# Altium integrated library Altera MAX 7000S.IntLib: 338 symbols (part 15 of 20)
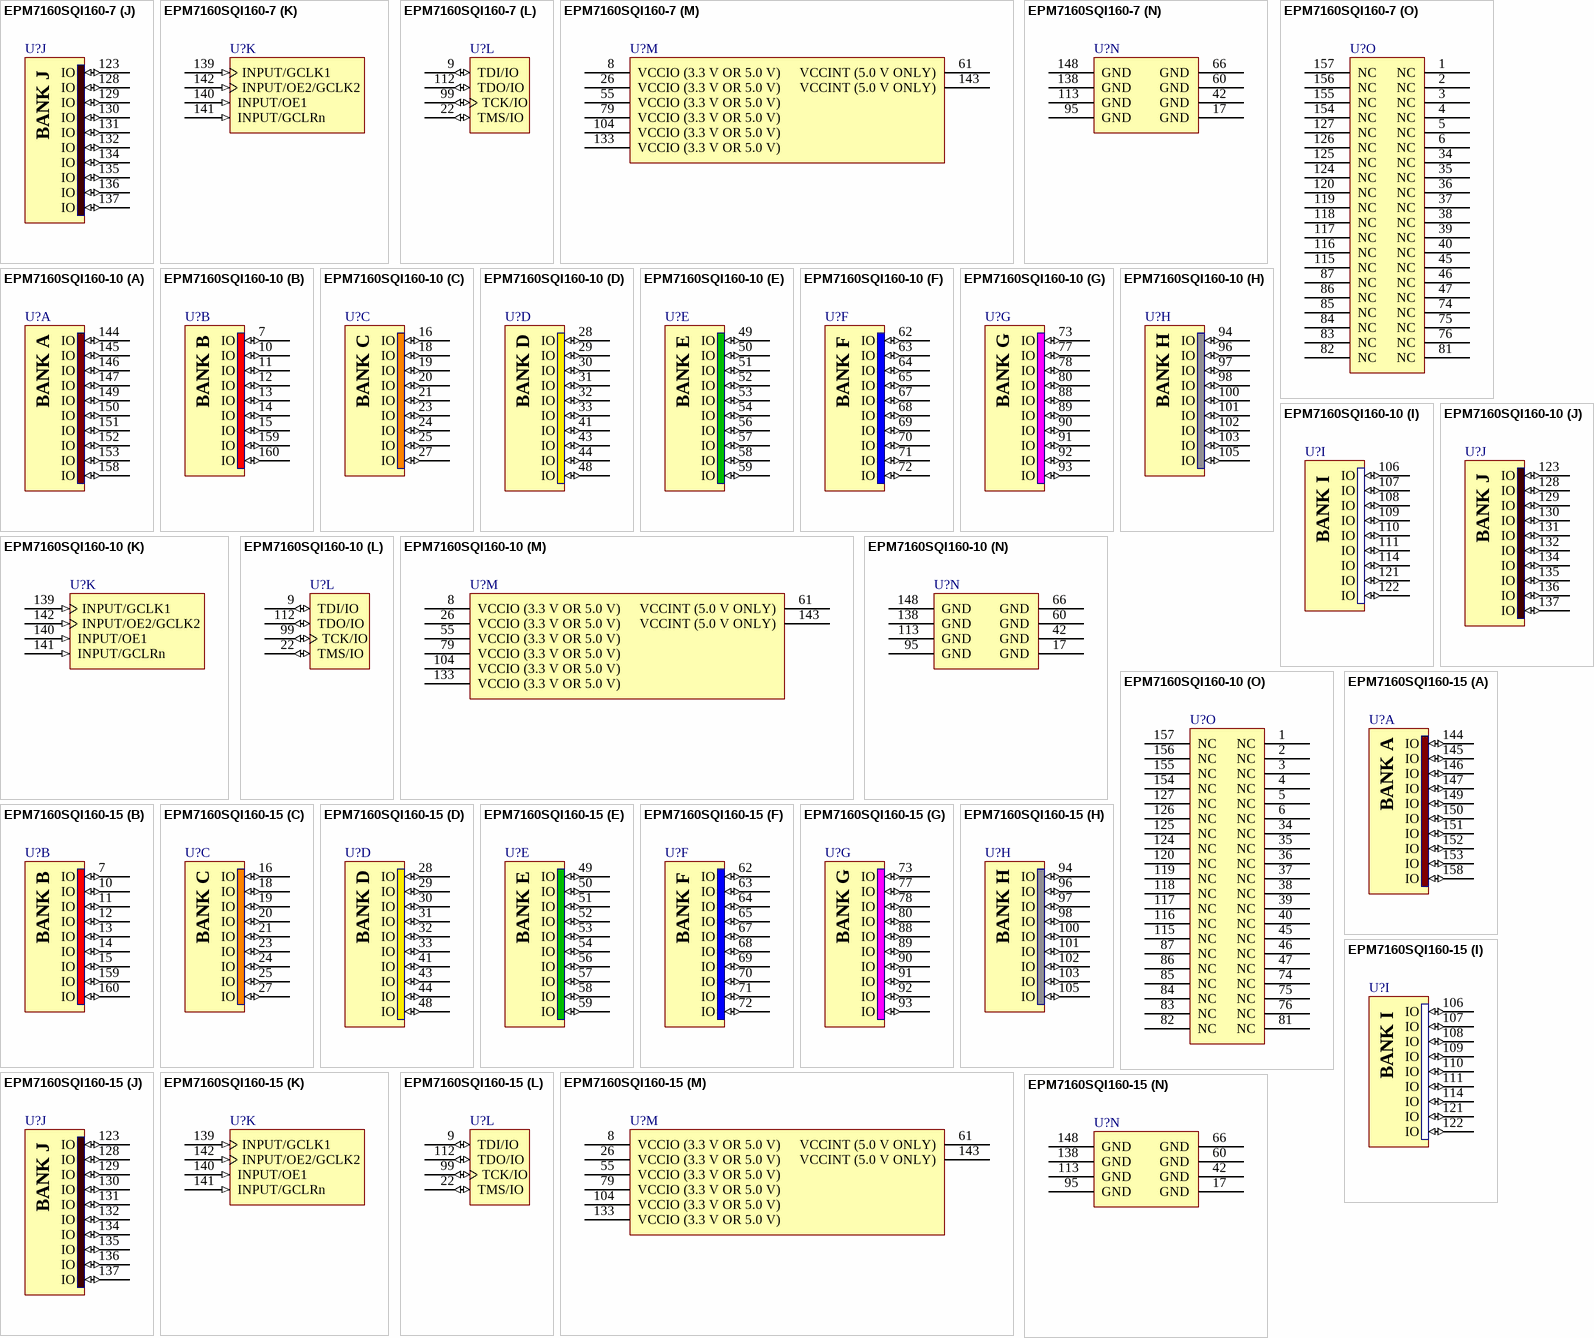
[diagram p118: symbols EPM7160SQI160-7 to EPM7160SQI160-15]

## EPM7160SQI160-10
designator U?
MAX 7000S 5V In-System Programmable CPLD, 160 Macrocells, 160-Pin PQFP, Speed Grade 10, Industrial Grade; Published: 17-Jul-2002; LatestRevisionDate: 13-Apr-2006; LatestRevisionNote: IPC-7351 Footprint Added.; DatasheetVersion: ver6.7, Sep-2005; PackageVersion: ver14.3, Jul-2006; PackageReference: PQFP160; Publisher: Altium Limited; PackageDescription: 160-Pin Plastic Quad Flat Pack (PFQP160); Code_JEDEC: MS-022-DD-1; Code_IPC: QFP65P3120X3120-160; ComponentLink1Description: Manufacturer Link; ComponentLink1URL: http://www.altera.com/products/devices/max7k/m7k-index.html; ComponentLink2Description: Datasheet; ComponentLink2URL: http://www.altera.com/literature/ds/m7000.pdf; ComponentLink3Description: Packaging Specification; ComponentLink3URL: http://www.altera.com/literature/ds/dspkg.pdf
footprint PQFP160_N (QFP, 160-Leads, Body 28x28mm, Pitch 0.65mm, IPC Medium Density)
footprint PQFP160_L (QFP, 160-Leads, Body 28x28mm, Pitch 0.65mm, IPC High Density)
footprint PQFP160_M (QFP, 160-Leads, Body 28x28mm, Pitch 0.65mm, IPC Low Density)
3D model EPM7160S-PQFP160 (160-Pin Plastic Quad Flat Pack (PFQP160))
signal-integrity model 7k (MAX 7000S)
part A pins: 144 IO (io), 145 IO (io), 146 IO (io), 147 IO (io), 149 IO (io), 150 IO (io), 151 IO (io), 152 IO (io), 153 IO (io), 158 IO (io)
part B pins: 7 IO (io), 10 IO (io), 11 IO (io), 12 IO (io), 13 IO (io), 14 IO (io), 15 IO (io), 159 IO (io), 160 IO (io)
part C pins: 16 IO (io), 18 IO (io), 19 IO (io), 20 IO (io), 21 IO (io), 23 IO (io), 24 IO (io), 25 IO (io), 27 IO (io)
part D pins: 28 IO (io), 29 IO (io), 30 IO (io), 31 IO (io), 32 IO (io), 33 IO (io), 41 IO (io), 43 IO (io), 44 IO (io), 48 IO (io)
part E pins: 49 IO (io), 50 IO (io), 51 IO (io), 52 IO (io), 53 IO (io), 54 IO (io), 56 IO (io), 57 IO (io), 58 IO (io), 59 IO (io)
part F pins: 62 IO (io), 63 IO (io), 64 IO (io), 65 IO (io), 67 IO (io), 68 IO (io), 69 IO (io), 70 IO (io), 71 IO (io), 72 IO (io)
part G pins: 73 IO (io), 77 IO (io), 78 IO (io), 80 IO (io), 88 IO (io), 89 IO (io), 90 IO (io), 91 IO (io), 92 IO (io), 93 IO (io)
part H pins: 94 IO (io), 96 IO (io), 97 IO (io), 98 IO (io), 100 IO (io), 101 IO (io), 102 IO (io), 103 IO (io), 105 IO (io)
part I pins: 106 IO (io), 107 IO (io), 108 IO (io), 109 IO (io), 110 IO (io), 111 IO (io), 114 IO (io), 121 IO (io), 122 IO (io)
part J pins: 123 IO (io), 128 IO (io), 129 IO (io), 130 IO (io), 131 IO (io), 132 IO (io), 134 IO (io), 135 IO (io), 136 IO (io), 137 IO (io)
part K pins: 139 INPUT/GCLK1 (in), 140 INPUT/OE1 (in), 141 INPUT/GCLRn (in), 142 INPUT/OE2/GCLK2 (in)
part L pins: 9 TDI/IO (io), 22 TMS/IO (io), 99 TCK/IO (io), 112 TDO/IO (io)
part M pins: 8 VCCIO (3.3 V OR 5.0 V) (power), 26 VCCIO (3.3 V OR 5.0 V) (power), 55 VCCIO (3.3 V OR 5.0 V) (power), 61 VCCINT (5.0 V ONLY) (power), 79 VCCIO (3.3 V OR 5.0 V) (power), 104 VCCIO (3.3 V OR 5.0 V) (power), 133 VCCIO (3.3 V OR 5.0 V) (power), 143 VCCINT (5.0 V ONLY) (power)
part N pins: 17 GND (power), 42 GND (power), 60 GND (power), 66 GND (power), 95 GND (power), 113 GND (power), 138 GND (power), 148 GND (power)
part O pins: 1 NC, 2 NC, 3 NC, 4 NC, 5 NC, 6 NC, 34 NC, 35 NC, 36 NC, 37 NC, 38 NC, 39 NC, 40 NC, 45 NC, 46 NC, 47 NC, 74 NC, 75 NC, 76 NC, 81 NC, 82 NC, 83 NC, 84 NC, 85 NC, 86 NC, 87 NC, 115 NC, 116 NC, 117 NC, 118 NC, 119 NC, 120 NC, 124 NC, 125 NC, 126 NC, 127 NC, 154 NC, 155 NC, 156 NC, 157 NC
part A text: BANK A
part B text: BANK B
part C text: BANK C
part D text: BANK D
part E text: BANK E
part F text: BANK F
part G text: BANK G
part H text: BANK H
part I text: BANK I
part J text: BANK J

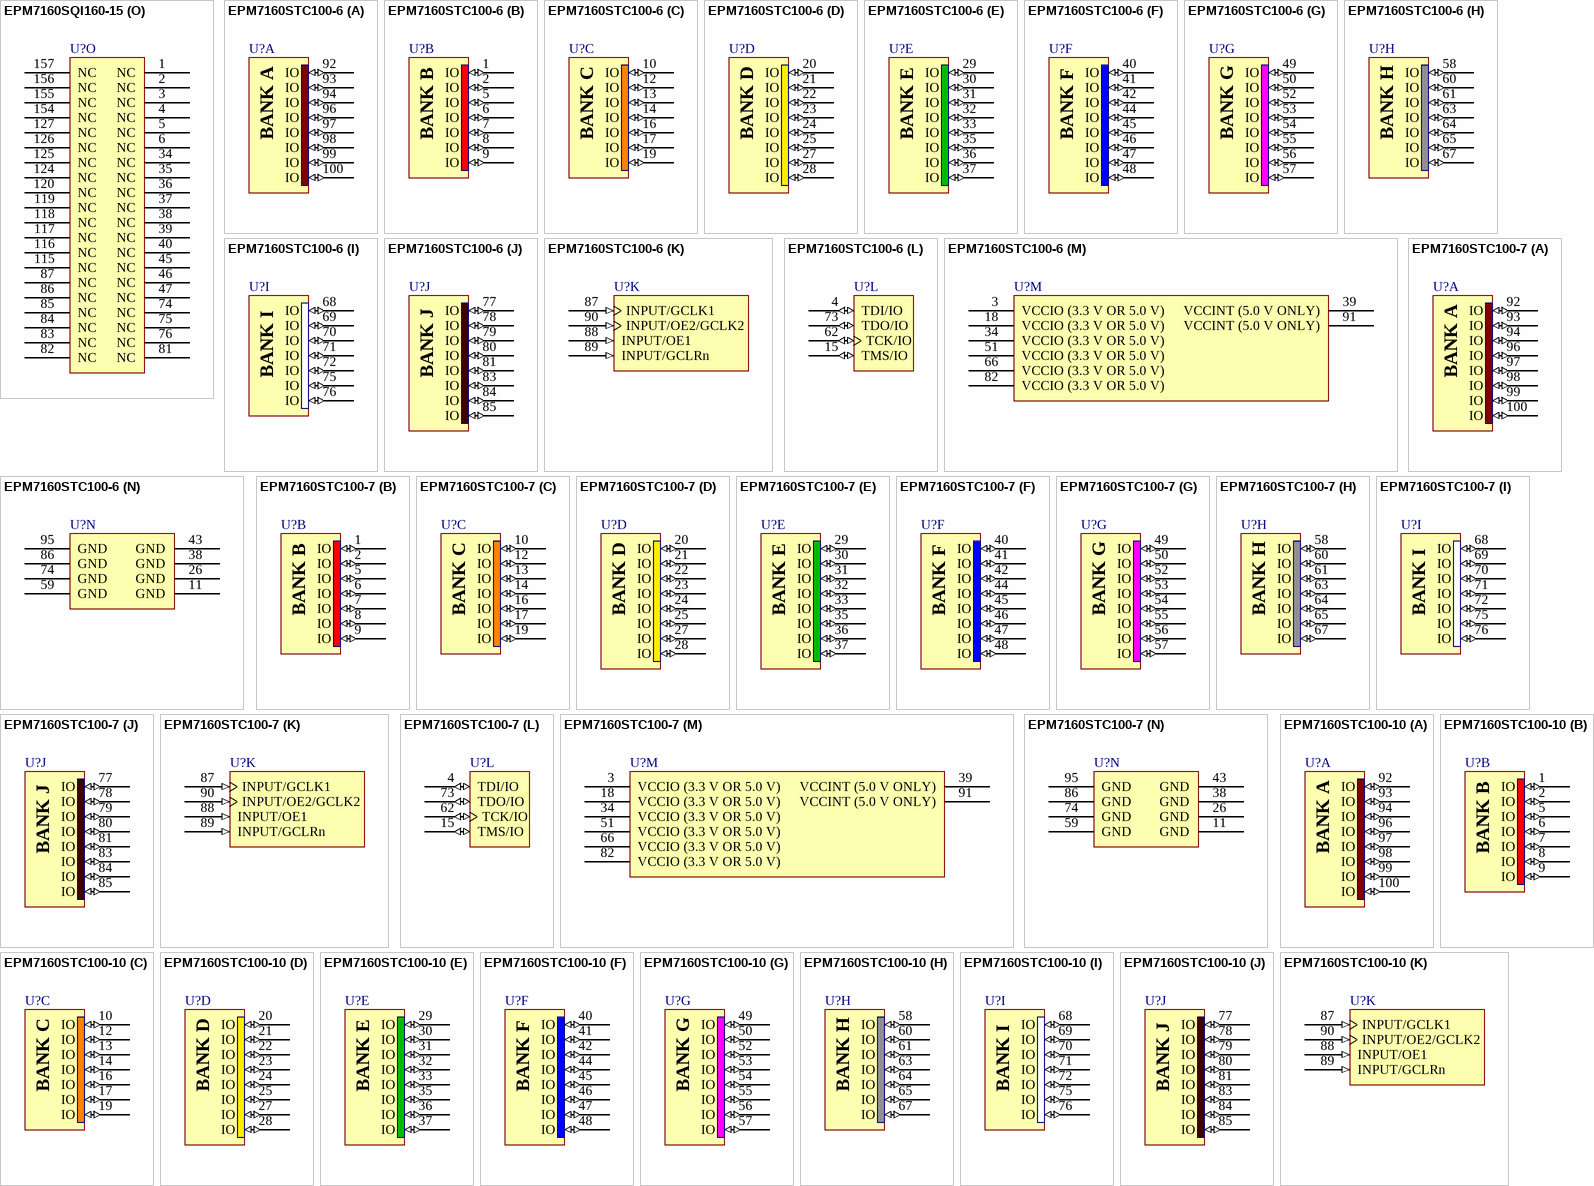
[diagram p74: symbols EPM7160SQI160-15 to EPM7160STC100-10]

## EPM7160SQI160-15
designator U?
MAX 7000S 5V In-System Programmable CPLD, 160 Macrocells, 160-Pin PQFP, Speed Grade 15, Industrial Grade; Published: 17-Sep-2003; LatestRevisionDate: 13-Apr-2006; LatestRevisionNote: IPC-7351 Footprint Added.; DatasheetVersion: ver6.7, Sep-2005; PackageVersion: ver14.3, Jul-2006; PackageReference: PQFP160; Publisher: Altium Limited; PackageDescription: 160-Pin Plastic Quad Flat Pack (PFQP160); Code_JEDEC: MS-022-DD-1; Code_IPC: QFP65P3120X3120-160; ComponentLink1Description: Manufacturer Link; ComponentLink1URL: http://www.altera.com/products/devices/max7k/m7k-index.html; ComponentLink2Description: Datasheet; ComponentLink2URL: http://www.altera.com/literature/ds/m7000.pdf; ComponentLink3Description: Packaging Specification; ComponentLink3URL: http://www.altera.com/literature/ds/dspkg.pdf
footprint PQFP160_N (QFP, 160-Leads, Body 28x28mm, Pitch 0.65mm, IPC Medium Density)
footprint PQFP160_L (QFP, 160-Leads, Body 28x28mm, Pitch 0.65mm, IPC High Density)
footprint PQFP160_M (QFP, 160-Leads, Body 28x28mm, Pitch 0.65mm, IPC Low Density)
3D model EPM7160S-PQFP160 (160-Pin Plastic Quad Flat Pack (PFQP160))
signal-integrity model 7k (MAX 7000S)
part A pins: 144 IO (io), 145 IO (io), 146 IO (io), 147 IO (io), 149 IO (io), 150 IO (io), 151 IO (io), 152 IO (io), 153 IO (io), 158 IO (io)
part B pins: 7 IO (io), 10 IO (io), 11 IO (io), 12 IO (io), 13 IO (io), 14 IO (io), 15 IO (io), 159 IO (io), 160 IO (io)
part C pins: 16 IO (io), 18 IO (io), 19 IO (io), 20 IO (io), 21 IO (io), 23 IO (io), 24 IO (io), 25 IO (io), 27 IO (io)
part D pins: 28 IO (io), 29 IO (io), 30 IO (io), 31 IO (io), 32 IO (io), 33 IO (io), 41 IO (io), 43 IO (io), 44 IO (io), 48 IO (io)
part E pins: 49 IO (io), 50 IO (io), 51 IO (io), 52 IO (io), 53 IO (io), 54 IO (io), 56 IO (io), 57 IO (io), 58 IO (io), 59 IO (io)
part F pins: 62 IO (io), 63 IO (io), 64 IO (io), 65 IO (io), 67 IO (io), 68 IO (io), 69 IO (io), 70 IO (io), 71 IO (io), 72 IO (io)
part G pins: 73 IO (io), 77 IO (io), 78 IO (io), 80 IO (io), 88 IO (io), 89 IO (io), 90 IO (io), 91 IO (io), 92 IO (io), 93 IO (io)
part H pins: 94 IO (io), 96 IO (io), 97 IO (io), 98 IO (io), 100 IO (io), 101 IO (io), 102 IO (io), 103 IO (io), 105 IO (io)
part I pins: 106 IO (io), 107 IO (io), 108 IO (io), 109 IO (io), 110 IO (io), 111 IO (io), 114 IO (io), 121 IO (io), 122 IO (io)
part J pins: 123 IO (io), 128 IO (io), 129 IO (io), 130 IO (io), 131 IO (io), 132 IO (io), 134 IO (io), 135 IO (io), 136 IO (io), 137 IO (io)
part K pins: 139 INPUT/GCLK1 (in), 140 INPUT/OE1 (in), 141 INPUT/GCLRn (in), 142 INPUT/OE2/GCLK2 (in)
part L pins: 9 TDI/IO (io), 22 TMS/IO (io), 99 TCK/IO (io), 112 TDO/IO (io)
part M pins: 8 VCCIO (3.3 V OR 5.0 V) (power), 26 VCCIO (3.3 V OR 5.0 V) (power), 55 VCCIO (3.3 V OR 5.0 V) (power), 61 VCCINT (5.0 V ONLY) (power), 79 VCCIO (3.3 V OR 5.0 V) (power), 104 VCCIO (3.3 V OR 5.0 V) (power), 133 VCCIO (3.3 V OR 5.0 V) (power), 143 VCCINT (5.0 V ONLY) (power)
part N pins: 17 GND (power), 42 GND (power), 60 GND (power), 66 GND (power), 95 GND (power), 113 GND (power), 138 GND (power), 148 GND (power)
part O pins: 1 NC, 2 NC, 3 NC, 4 NC, 5 NC, 6 NC, 34 NC, 35 NC, 36 NC, 37 NC, 38 NC, 39 NC, 40 NC, 45 NC, 46 NC, 47 NC, 74 NC, 75 NC, 76 NC, 81 NC, 82 NC, 83 NC, 84 NC, 85 NC, 86 NC, 87 NC, 115 NC, 116 NC, 117 NC, 118 NC, 119 NC, 120 NC, 124 NC, 125 NC, 126 NC, 127 NC, 154 NC, 155 NC, 156 NC, 157 NC
part A text: BANK A
part B text: BANK B
part C text: BANK C
part D text: BANK D
part E text: BANK E
part F text: BANK F
part G text: BANK G
part H text: BANK H
part I text: BANK I
part J text: BANK J

## EPM7160STC100-6
designator U?
MAX 7000S 5V In-System Programmable CPLD, 160 Macrocells, 100-Pin TQFP, Speed Grade 6, Commercial Grade; Published: 17-Jul-2002; LatestRevisionDate: 13-Apr-2006; LatestRevisionNote: IPC-7351 Footprint Added.; DatasheetVersion: ver6.7, Sep-2005; PackageVersion: ver15.1, May-2008; PackageReference: TQFP100; Publisher: Altium Limited; PackageDescription: 100-Pin Plastic Thin Quad Flat Pack (TQFP100) - Wire Bond; Supplier 1: Digi-Key; Supplier Part Number 1: 544-2340-ND; Code_JEDEC: MS-026-AED; ComponentLink1Description: Manufacturer Link; ComponentLink1URL: http://www.altera.com/products/devices/max7k/m7k-index.html; ComponentLink2Description: Datasheet; ComponentLink2URL: http://www.altera.com/literature/ds/m7000.pdf; ComponentLink3Description: Packaging Specification; ComponentLink3URL: http://www.altera.com/literature/ds/dspkg.pdf
footprint TQFP100_N (Thin QFP, 100-Leads, Body 14x14mm, Pitch 0.5mm, IPC Medium Density)
footprint TQFP100_L (Thin QFP, 100-Leads, Body 14x14mm, Pitch 0.5mm, IPC High Density)
footprint TQFP100_M (Thin QFP, 100-Leads, Body 14x14mm, Pitch 0.5mm, IPC Low Density)
3D model EPM7160S-TQFP100 (100-Pin Plastic Thin Quad Flat Pack (TQFP100) - Wire Bond)
signal-integrity model 7k (MAX 7000S)
part A pins: 92 IO (io), 93 IO (io), 94 IO (io), 96 IO (io), 97 IO (io), 98 IO (io), 99 IO (io), 100 IO (io)
part B pins: 1 IO (io), 2 IO (io), 5 IO (io), 6 IO (io), 7 IO (io), 8 IO (io), 9 IO (io)
part C pins: 10 IO (io), 12 IO (io), 13 IO (io), 14 IO (io), 16 IO (io), 17 IO (io), 19 IO (io)
part D pins: 20 IO (io), 21 IO (io), 22 IO (io), 23 IO (io), 24 IO (io), 25 IO (io), 27 IO (io), 28 IO (io)
part E pins: 29 IO (io), 30 IO (io), 31 IO (io), 32 IO (io), 33 IO (io), 35 IO (io), 36 IO (io), 37 IO (io)
part F pins: 40 IO (io), 41 IO (io), 42 IO (io), 44 IO (io), 45 IO (io), 46 IO (io), 47 IO (io), 48 IO (io)
part G pins: 49 IO (io), 50 IO (io), 52 IO (io), 53 IO (io), 54 IO (io), 55 IO (io), 56 IO (io), 57 IO (io)
part H pins: 58 IO (io), 60 IO (io), 61 IO (io), 63 IO (io), 64 IO (io), 65 IO (io), 67 IO (io)
part I pins: 68 IO (io), 69 IO (io), 70 IO (io), 71 IO (io), 72 IO (io), 75 IO (io), 76 IO (io)
part J pins: 77 IO (io), 78 IO (io), 79 IO (io), 80 IO (io), 81 IO (io), 83 IO (io), 84 IO (io), 85 IO (io)
part K pins: 87 INPUT/GCLK1 (in), 88 INPUT/OE1 (in), 89 INPUT/GCLRn (in), 90 INPUT/OE2/GCLK2 (in)
part L pins: 4 TDI/IO (io), 15 TMS/IO (io), 62 TCK/IO (io), 73 TDO/IO (io)
part M pins: 3 VCCIO (3.3 V OR 5.0 V) (power), 18 VCCIO (3.3 V OR 5.0 V) (power), 34 VCCIO (3.3 V OR 5.0 V) (power), 39 VCCINT (5.0 V ONLY) (power), 51 VCCIO (3.3 V OR 5.0 V) (power), 66 VCCIO (3.3 V OR 5.0 V) (power), 82 VCCIO (3.3 V OR 5.0 V) (power), 91 VCCINT (5.0 V ONLY) (power)
part N pins: 11 GND (power), 26 GND (power), 38 GND (power), 43 GND (power), 59 GND (power), 74 GND (power), 86 GND (power), 95 GND (power)
part A text: BANK A
part B text: BANK B
part C text: BANK C
part D text: BANK D
part E text: BANK E
part F text: BANK F
part G text: BANK G
part H text: BANK H
part I text: BANK I
part J text: BANK J

## EPM7160STC100-7
designator U?
MAX 7000S 5V In-System Programmable CPLD, 160 Macrocells, 100-Pin TQFP, Speed Grade 7, Commercial Grade; Published: 17-Jul-2002; LatestRevisionDate: 13-Apr-2006; LatestRevisionNote: IPC-7351 Footprint Added.; DatasheetVersion: ver6.7, Sep-2005; PackageVersion: ver15.1, May-2008; PackageReference: TQFP100; Publisher: Altium Limited; PackageDescription: 100-Pin Plastic Thin Quad Flat Pack (TQFP100) - Wire Bond; Supplier 1: Digi-Key; Supplier Part Number 1: 544-2051-ND; Code_JEDEC: MS-026-AED; ComponentLink1Description: Manufacturer Link; ComponentLink1URL: http://www.altera.com/products/devices/max7k/m7k-index.html; ComponentLink2Description: Datasheet; ComponentLink2URL: http://www.altera.com/literature/ds/m7000.pdf; ComponentLink3Description: Packaging Specification; ComponentLink3URL: http://www.altera.com/literature/ds/dspkg.pdf
footprint TQFP100_N (Thin QFP, 100-Leads, Body 14x14mm, Pitch 0.5mm, IPC Medium Density)
footprint TQFP100_L (Thin QFP, 100-Leads, Body 14x14mm, Pitch 0.5mm, IPC High Density)
footprint TQFP100_M (Thin QFP, 100-Leads, Body 14x14mm, Pitch 0.5mm, IPC Low Density)
3D model EPM7160S-TQFP100 (100-Pin Plastic Thin Quad Flat Pack (TQFP100) - Wire Bond)
signal-integrity model 7k (MAX 7000S)
part A pins: 92 IO (io), 93 IO (io), 94 IO (io), 96 IO (io), 97 IO (io), 98 IO (io), 99 IO (io), 100 IO (io)
part B pins: 1 IO (io), 2 IO (io), 5 IO (io), 6 IO (io), 7 IO (io), 8 IO (io), 9 IO (io)
part C pins: 10 IO (io), 12 IO (io), 13 IO (io), 14 IO (io), 16 IO (io), 17 IO (io), 19 IO (io)
part D pins: 20 IO (io), 21 IO (io), 22 IO (io), 23 IO (io), 24 IO (io), 25 IO (io), 27 IO (io), 28 IO (io)
part E pins: 29 IO (io), 30 IO (io), 31 IO (io), 32 IO (io), 33 IO (io), 35 IO (io), 36 IO (io), 37 IO (io)
part F pins: 40 IO (io), 41 IO (io), 42 IO (io), 44 IO (io), 45 IO (io), 46 IO (io), 47 IO (io), 48 IO (io)
part G pins: 49 IO (io), 50 IO (io), 52 IO (io), 53 IO (io), 54 IO (io), 55 IO (io), 56 IO (io), 57 IO (io)
part H pins: 58 IO (io), 60 IO (io), 61 IO (io), 63 IO (io), 64 IO (io), 65 IO (io), 67 IO (io)
part I pins: 68 IO (io), 69 IO (io), 70 IO (io), 71 IO (io), 72 IO (io), 75 IO (io), 76 IO (io)
part J pins: 77 IO (io), 78 IO (io), 79 IO (io), 80 IO (io), 81 IO (io), 83 IO (io), 84 IO (io), 85 IO (io)
part K pins: 87 INPUT/GCLK1 (in), 88 INPUT/OE1 (in), 89 INPUT/GCLRn (in), 90 INPUT/OE2/GCLK2 (in)
part L pins: 4 TDI/IO (io), 15 TMS/IO (io), 62 TCK/IO (io), 73 TDO/IO (io)
part M pins: 3 VCCIO (3.3 V OR 5.0 V) (power), 18 VCCIO (3.3 V OR 5.0 V) (power), 34 VCCIO (3.3 V OR 5.0 V) (power), 39 VCCINT (5.0 V ONLY) (power), 51 VCCIO (3.3 V OR 5.0 V) (power), 66 VCCIO (3.3 V OR 5.0 V) (power), 82 VCCIO (3.3 V OR 5.0 V) (power), 91 VCCINT (5.0 V ONLY) (power)
part N pins: 11 GND (power), 26 GND (power), 38 GND (power), 43 GND (power), 59 GND (power), 74 GND (power), 86 GND (power), 95 GND (power)
part A text: BANK A
part B text: BANK B
part C text: BANK C
part D text: BANK D
part E text: BANK E
part F text: BANK F
part G text: BANK G
part H text: BANK H
part I text: BANK I
part J text: BANK J

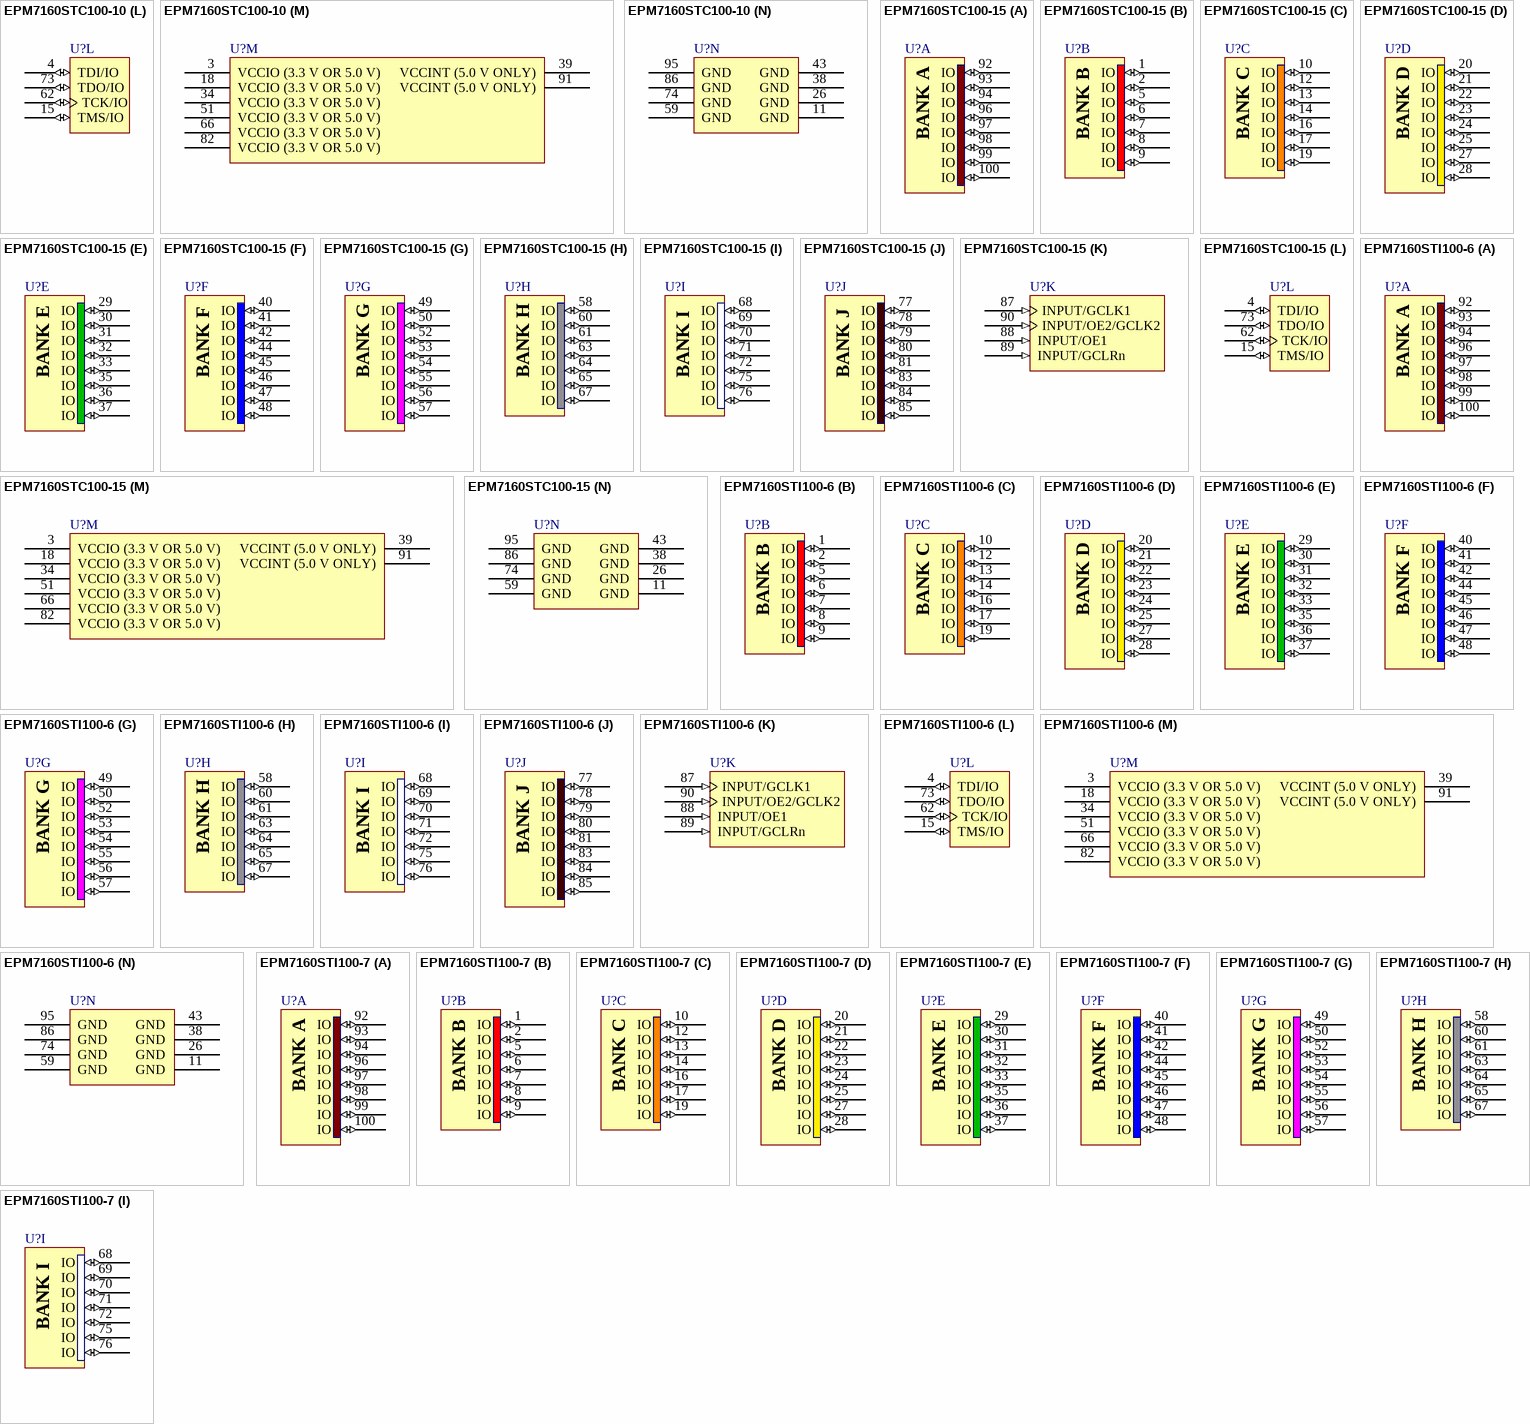
[diagram p75: symbols EPM7160STC100-10 to EPM7160STI100-7]

## EPM7160STC100-10
designator U?
MAX 7000S 5V In-System Programmable CPLD, 160 Macrocells, 100-Pin TQFP, Speed Grade 10, Commercial Grade; Published: 17-Jul-2002; LatestRevisionDate: 13-Apr-2006; LatestRevisionNote: IPC-7351 Footprint Added.; DatasheetVersion: ver6.7, Sep-2005; PackageVersion: ver15.1, May-2008; PackageReference: TQFP100; Publisher: Altium Limited; PackageDescription: 100-Pin Plastic Thin Quad Flat Pack (TQFP100) - Wire Bond; Supplier 1: Digi-Key; Supplier Part Number 1: 544-1214-ND; Code_JEDEC: MS-026-AED; ComponentLink1Description: Manufacturer Link; ComponentLink1URL: http://www.altera.com/products/devices/max7k/m7k-index.html; ComponentLink2Description: Datasheet; ComponentLink2URL: http://www.altera.com/literature/ds/m7000.pdf; ComponentLink3Description: Packaging Specification; ComponentLink3URL: http://www.altera.com/literature/ds/dspkg.pdf
footprint TQFP100_N (Thin QFP, 100-Leads, Body 14x14mm, Pitch 0.5mm, IPC Medium Density)
footprint TQFP100_L (Thin QFP, 100-Leads, Body 14x14mm, Pitch 0.5mm, IPC High Density)
footprint TQFP100_M (Thin QFP, 100-Leads, Body 14x14mm, Pitch 0.5mm, IPC Low Density)
3D model EPM7160S-TQFP100 (100-Pin Plastic Thin Quad Flat Pack (TQFP100) - Wire Bond)
signal-integrity model 7k (MAX 7000S)
part A pins: 92 IO (io), 93 IO (io), 94 IO (io), 96 IO (io), 97 IO (io), 98 IO (io), 99 IO (io), 100 IO (io)
part B pins: 1 IO (io), 2 IO (io), 5 IO (io), 6 IO (io), 7 IO (io), 8 IO (io), 9 IO (io)
part C pins: 10 IO (io), 12 IO (io), 13 IO (io), 14 IO (io), 16 IO (io), 17 IO (io), 19 IO (io)
part D pins: 20 IO (io), 21 IO (io), 22 IO (io), 23 IO (io), 24 IO (io), 25 IO (io), 27 IO (io), 28 IO (io)
part E pins: 29 IO (io), 30 IO (io), 31 IO (io), 32 IO (io), 33 IO (io), 35 IO (io), 36 IO (io), 37 IO (io)
part F pins: 40 IO (io), 41 IO (io), 42 IO (io), 44 IO (io), 45 IO (io), 46 IO (io), 47 IO (io), 48 IO (io)
part G pins: 49 IO (io), 50 IO (io), 52 IO (io), 53 IO (io), 54 IO (io), 55 IO (io), 56 IO (io), 57 IO (io)
part H pins: 58 IO (io), 60 IO (io), 61 IO (io), 63 IO (io), 64 IO (io), 65 IO (io), 67 IO (io)
part I pins: 68 IO (io), 69 IO (io), 70 IO (io), 71 IO (io), 72 IO (io), 75 IO (io), 76 IO (io)
part J pins: 77 IO (io), 78 IO (io), 79 IO (io), 80 IO (io), 81 IO (io), 83 IO (io), 84 IO (io), 85 IO (io)
part K pins: 87 INPUT/GCLK1 (in), 88 INPUT/OE1 (in), 89 INPUT/GCLRn (in), 90 INPUT/OE2/GCLK2 (in)
part L pins: 4 TDI/IO (io), 15 TMS/IO (io), 62 TCK/IO (io), 73 TDO/IO (io)
part M pins: 3 VCCIO (3.3 V OR 5.0 V) (power), 18 VCCIO (3.3 V OR 5.0 V) (power), 34 VCCIO (3.3 V OR 5.0 V) (power), 39 VCCINT (5.0 V ONLY) (power), 51 VCCIO (3.3 V OR 5.0 V) (power), 66 VCCIO (3.3 V OR 5.0 V) (power), 82 VCCIO (3.3 V OR 5.0 V) (power), 91 VCCINT (5.0 V ONLY) (power)
part N pins: 11 GND (power), 26 GND (power), 38 GND (power), 43 GND (power), 59 GND (power), 74 GND (power), 86 GND (power), 95 GND (power)
part A text: BANK A
part B text: BANK B
part C text: BANK C
part D text: BANK D
part E text: BANK E
part F text: BANK F
part G text: BANK G
part H text: BANK H
part I text: BANK I
part J text: BANK J

## EPM7160STC100-15
designator U?
MAX 7000S 5V In-System Programmable CPLD, 160 Macrocells, 100-Pin TQFP, Speed Grade 15, Commercial Grade; Published: 17-Sep-2003; LatestRevisionDate: 13-Apr-2006; LatestRevisionNote: IPC-7351 Footprint Added.; DatasheetVersion: ver6.7, Sep-2005; PackageVersion: ver15.1, May-2008; PackageReference: TQFP100; Publisher: Altium Limited; PackageDescription: 100-Pin Plastic Thin Quad Flat Pack (TQFP100) - Wire Bond; Code_JEDEC: MS-026-AED; ComponentLink1Description: Manufacturer Link; ComponentLink1URL: http://www.altera.com/products/devices/max7k/m7k-index.html; ComponentLink2Description: Datasheet; ComponentLink2URL: http://www.altera.com/literature/ds/m7000.pdf; ComponentLink3Description: Packaging Specification; ComponentLink3URL: http://www.altera.com/literature/ds/dspkg.pdf
footprint TQFP100_N (Thin QFP, 100-Leads, Body 14x14mm, Pitch 0.5mm, IPC Medium Density)
footprint TQFP100_L (Thin QFP, 100-Leads, Body 14x14mm, Pitch 0.5mm, IPC High Density)
footprint TQFP100_M (Thin QFP, 100-Leads, Body 14x14mm, Pitch 0.5mm, IPC Low Density)
3D model EPM7160S-TQFP100 (100-Pin Plastic Thin Quad Flat Pack (TQFP100) - Wire Bond)
signal-integrity model 7k (MAX 7000S)
part A pins: 92 IO (io), 93 IO (io), 94 IO (io), 96 IO (io), 97 IO (io), 98 IO (io), 99 IO (io), 100 IO (io)
part B pins: 1 IO (io), 2 IO (io), 5 IO (io), 6 IO (io), 7 IO (io), 8 IO (io), 9 IO (io)
part C pins: 10 IO (io), 12 IO (io), 13 IO (io), 14 IO (io), 16 IO (io), 17 IO (io), 19 IO (io)
part D pins: 20 IO (io), 21 IO (io), 22 IO (io), 23 IO (io), 24 IO (io), 25 IO (io), 27 IO (io), 28 IO (io)
part E pins: 29 IO (io), 30 IO (io), 31 IO (io), 32 IO (io), 33 IO (io), 35 IO (io), 36 IO (io), 37 IO (io)
part F pins: 40 IO (io), 41 IO (io), 42 IO (io), 44 IO (io), 45 IO (io), 46 IO (io), 47 IO (io), 48 IO (io)
part G pins: 49 IO (io), 50 IO (io), 52 IO (io), 53 IO (io), 54 IO (io), 55 IO (io), 56 IO (io), 57 IO (io)
part H pins: 58 IO (io), 60 IO (io), 61 IO (io), 63 IO (io), 64 IO (io), 65 IO (io), 67 IO (io)
part I pins: 68 IO (io), 69 IO (io), 70 IO (io), 71 IO (io), 72 IO (io), 75 IO (io), 76 IO (io)
part J pins: 77 IO (io), 78 IO (io), 79 IO (io), 80 IO (io), 81 IO (io), 83 IO (io), 84 IO (io), 85 IO (io)
part K pins: 87 INPUT/GCLK1 (in), 88 INPUT/OE1 (in), 89 INPUT/GCLRn (in), 90 INPUT/OE2/GCLK2 (in)
part L pins: 4 TDI/IO (io), 15 TMS/IO (io), 62 TCK/IO (io), 73 TDO/IO (io)
part M pins: 3 VCCIO (3.3 V OR 5.0 V) (power), 18 VCCIO (3.3 V OR 5.0 V) (power), 34 VCCIO (3.3 V OR 5.0 V) (power), 39 VCCINT (5.0 V ONLY) (power), 51 VCCIO (3.3 V OR 5.0 V) (power), 66 VCCIO (3.3 V OR 5.0 V) (power), 82 VCCIO (3.3 V OR 5.0 V) (power), 91 VCCINT (5.0 V ONLY) (power)
part N pins: 11 GND (power), 26 GND (power), 38 GND (power), 43 GND (power), 59 GND (power), 74 GND (power), 86 GND (power), 95 GND (power)
part A text: BANK A
part B text: BANK B
part C text: BANK C
part D text: BANK D
part E text: BANK E
part F text: BANK F
part G text: BANK G
part H text: BANK H
part I text: BANK I
part J text: BANK J

## EPM7160STI100-6
designator U?
MAX 7000S 5V In-System Programmable CPLD, 160 Macrocells, 100-Pin TQFP, Speed Grade 6, Industrial Grade; Published: 17-Sep-2003; LatestRevisionDate: 13-Apr-2006; LatestRevisionNote: IPC-7351 Footprint Added.; DatasheetVersion: ver6.7, Sep-2005; PackageVersion: ver15.1, May-2008; PackageReference: TQFP100; Publisher: Altium Limited; PackageDescription: 100-Pin Plastic Thin Quad Flat Pack (TQFP100) - Wire Bond; Code_JEDEC: MS-026-AED; ComponentLink1Description: Manufacturer Link; ComponentLink1URL: http://www.altera.com/products/devices/max7k/m7k-index.html; ComponentLink2Description: Datasheet; ComponentLink2URL: http://www.altera.com/literature/ds/m7000.pdf; ComponentLink3Description: Packaging Specification; ComponentLink3URL: http://www.altera.com/literature/ds/dspkg.pdf
footprint TQFP100_N (Thin QFP, 100-Leads, Body 14x14mm, Pitch 0.5mm, IPC Medium Density)
footprint TQFP100_L (Thin QFP, 100-Leads, Body 14x14mm, Pitch 0.5mm, IPC High Density)
footprint TQFP100_M (Thin QFP, 100-Leads, Body 14x14mm, Pitch 0.5mm, IPC Low Density)
3D model EPM7160S-TQFP100 (100-Pin Plastic Thin Quad Flat Pack (TQFP100) - Wire Bond)
signal-integrity model 7k (MAX 7000S)
part A pins: 92 IO (io), 93 IO (io), 94 IO (io), 96 IO (io), 97 IO (io), 98 IO (io), 99 IO (io), 100 IO (io)
part B pins: 1 IO (io), 2 IO (io), 5 IO (io), 6 IO (io), 7 IO (io), 8 IO (io), 9 IO (io)
part C pins: 10 IO (io), 12 IO (io), 13 IO (io), 14 IO (io), 16 IO (io), 17 IO (io), 19 IO (io)
part D pins: 20 IO (io), 21 IO (io), 22 IO (io), 23 IO (io), 24 IO (io), 25 IO (io), 27 IO (io), 28 IO (io)
part E pins: 29 IO (io), 30 IO (io), 31 IO (io), 32 IO (io), 33 IO (io), 35 IO (io), 36 IO (io), 37 IO (io)
part F pins: 40 IO (io), 41 IO (io), 42 IO (io), 44 IO (io), 45 IO (io), 46 IO (io), 47 IO (io), 48 IO (io)
part G pins: 49 IO (io), 50 IO (io), 52 IO (io), 53 IO (io), 54 IO (io), 55 IO (io), 56 IO (io), 57 IO (io)
part H pins: 58 IO (io), 60 IO (io), 61 IO (io), 63 IO (io), 64 IO (io), 65 IO (io), 67 IO (io)
part I pins: 68 IO (io), 69 IO (io), 70 IO (io), 71 IO (io), 72 IO (io), 75 IO (io), 76 IO (io)
part J pins: 77 IO (io), 78 IO (io), 79 IO (io), 80 IO (io), 81 IO (io), 83 IO (io), 84 IO (io), 85 IO (io)
part K pins: 87 INPUT/GCLK1 (in), 88 INPUT/OE1 (in), 89 INPUT/GCLRn (in), 90 INPUT/OE2/GCLK2 (in)
part L pins: 4 TDI/IO (io), 15 TMS/IO (io), 62 TCK/IO (io), 73 TDO/IO (io)
part M pins: 3 VCCIO (3.3 V OR 5.0 V) (power), 18 VCCIO (3.3 V OR 5.0 V) (power), 34 VCCIO (3.3 V OR 5.0 V) (power), 39 VCCINT (5.0 V ONLY) (power), 51 VCCIO (3.3 V OR 5.0 V) (power), 66 VCCIO (3.3 V OR 5.0 V) (power), 82 VCCIO (3.3 V OR 5.0 V) (power), 91 VCCINT (5.0 V ONLY) (power)
part N pins: 11 GND (power), 26 GND (power), 38 GND (power), 43 GND (power), 59 GND (power), 74 GND (power), 86 GND (power), 95 GND (power)
part A text: BANK A
part B text: BANK B
part C text: BANK C
part D text: BANK D
part E text: BANK E
part F text: BANK F
part G text: BANK G
part H text: BANK H
part I text: BANK I
part J text: BANK J

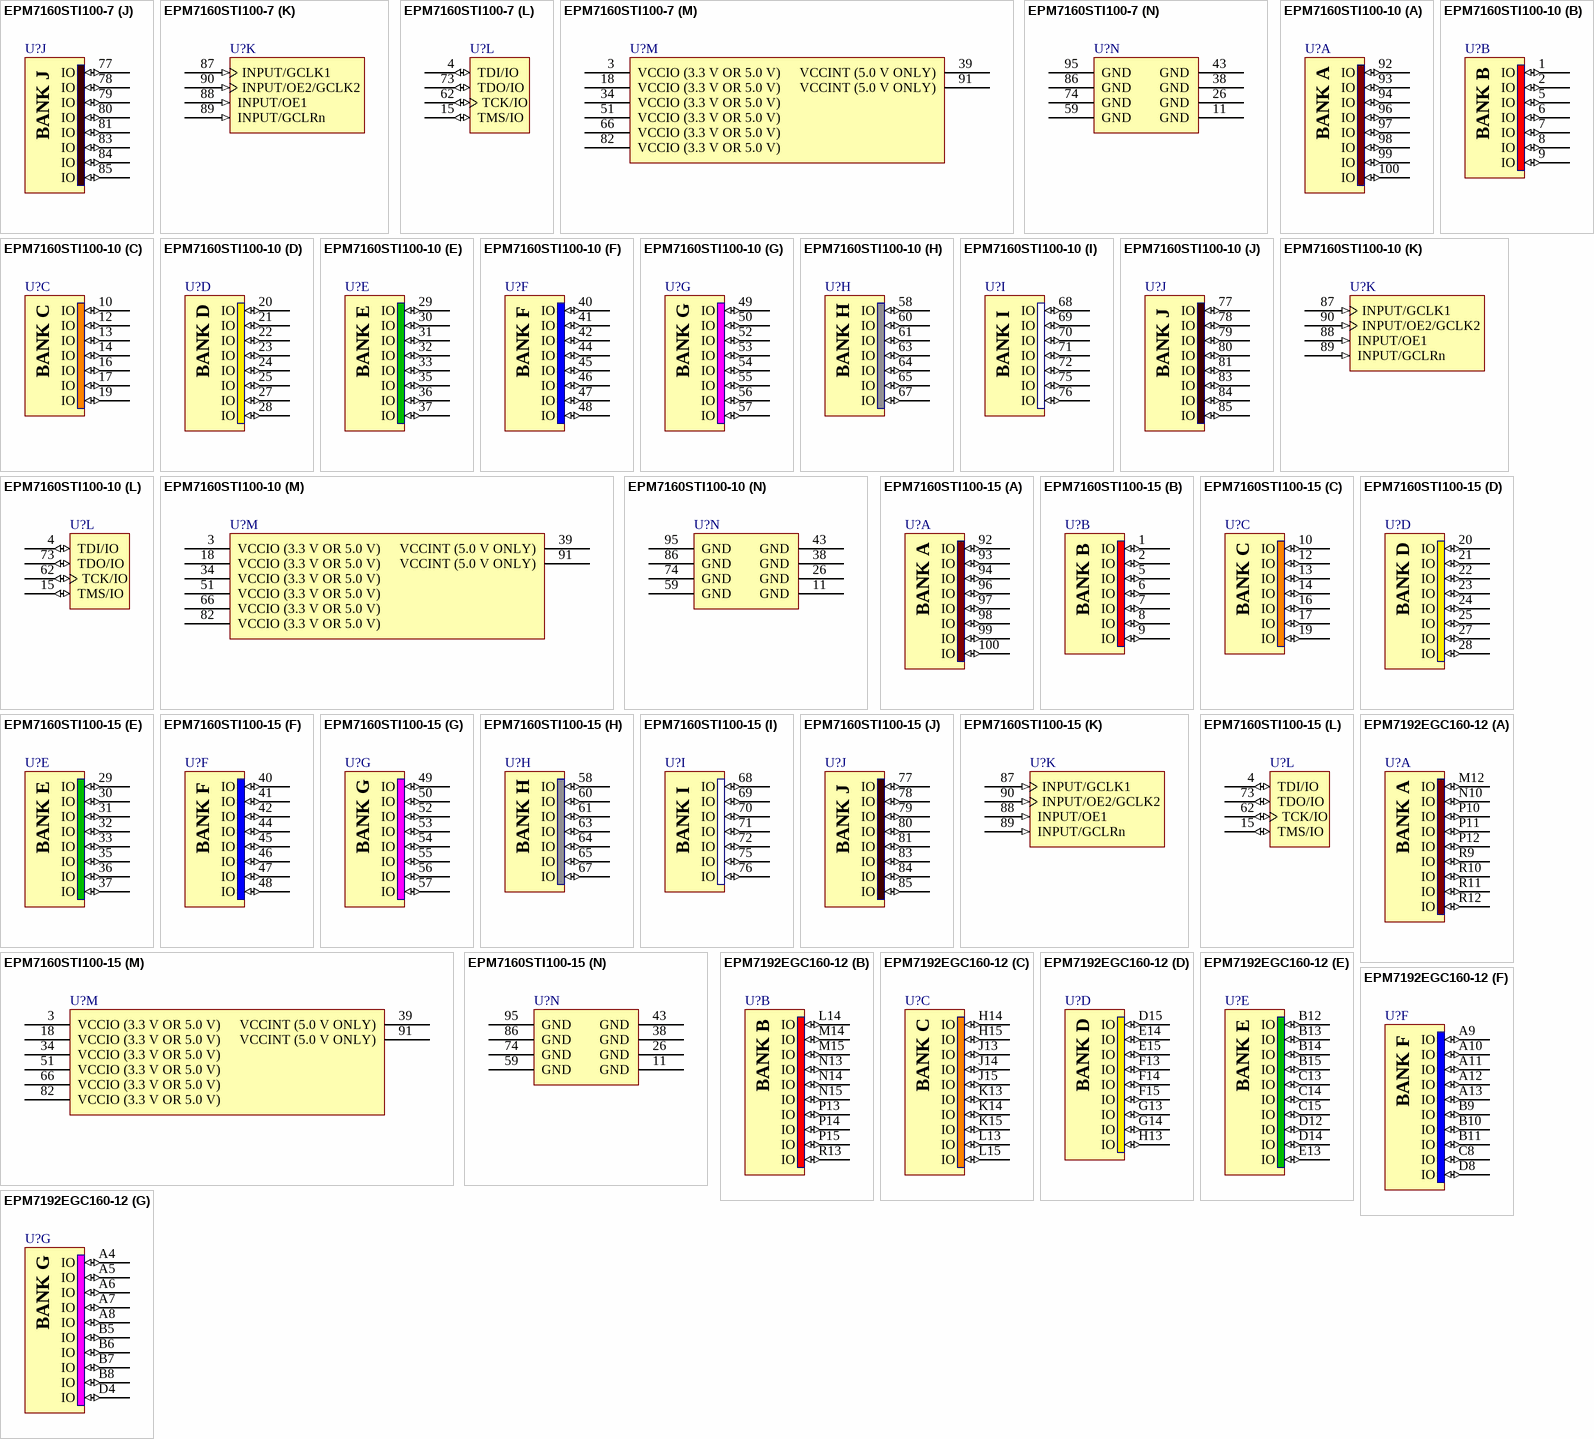
[diagram p76: symbols EPM7160STI100-7 to EPM7192EGC160-12]

## EPM7160STI100-7
designator U?
MAX 7000S 5V In-System Programmable CPLD, 160 Macrocells, 100-Pin TQFP, Speed Grade 7, Industrial Grade; Published: 17-Sep-2003; LatestRevisionDate: 13-Apr-2006; LatestRevisionNote: IPC-7351 Footprint Added.; DatasheetVersion: ver6.7, Sep-2005; PackageVersion: ver15.1, May-2008; PackageReference: TQFP100; Publisher: Altium Limited; PackageDescription: 100-Pin Plastic Thin Quad Flat Pack (TQFP100) - Wire Bond; Code_JEDEC: MS-026-AED; ComponentLink1Description: Manufacturer Link; ComponentLink1URL: http://www.altera.com/products/devices/max7k/m7k-index.html; ComponentLink2Description: Datasheet; ComponentLink2URL: http://www.altera.com/literature/ds/m7000.pdf; ComponentLink3Description: Packaging Specification; ComponentLink3URL: http://www.altera.com/literature/ds/dspkg.pdf
footprint TQFP100_N (Thin QFP, 100-Leads, Body 14x14mm, Pitch 0.5mm, IPC Medium Density)
footprint TQFP100_L (Thin QFP, 100-Leads, Body 14x14mm, Pitch 0.5mm, IPC High Density)
footprint TQFP100_M (Thin QFP, 100-Leads, Body 14x14mm, Pitch 0.5mm, IPC Low Density)
3D model EPM7160S-TQFP100 (100-Pin Plastic Thin Quad Flat Pack (TQFP100) - Wire Bond)
signal-integrity model 7k (MAX 7000S)
part A pins: 92 IO (io), 93 IO (io), 94 IO (io), 96 IO (io), 97 IO (io), 98 IO (io), 99 IO (io), 100 IO (io)
part B pins: 1 IO (io), 2 IO (io), 5 IO (io), 6 IO (io), 7 IO (io), 8 IO (io), 9 IO (io)
part C pins: 10 IO (io), 12 IO (io), 13 IO (io), 14 IO (io), 16 IO (io), 17 IO (io), 19 IO (io)
part D pins: 20 IO (io), 21 IO (io), 22 IO (io), 23 IO (io), 24 IO (io), 25 IO (io), 27 IO (io), 28 IO (io)
part E pins: 29 IO (io), 30 IO (io), 31 IO (io), 32 IO (io), 33 IO (io), 35 IO (io), 36 IO (io), 37 IO (io)
part F pins: 40 IO (io), 41 IO (io), 42 IO (io), 44 IO (io), 45 IO (io), 46 IO (io), 47 IO (io), 48 IO (io)
part G pins: 49 IO (io), 50 IO (io), 52 IO (io), 53 IO (io), 54 IO (io), 55 IO (io), 56 IO (io), 57 IO (io)
part H pins: 58 IO (io), 60 IO (io), 61 IO (io), 63 IO (io), 64 IO (io), 65 IO (io), 67 IO (io)
part I pins: 68 IO (io), 69 IO (io), 70 IO (io), 71 IO (io), 72 IO (io), 75 IO (io), 76 IO (io)
part J pins: 77 IO (io), 78 IO (io), 79 IO (io), 80 IO (io), 81 IO (io), 83 IO (io), 84 IO (io), 85 IO (io)
part K pins: 87 INPUT/GCLK1 (in), 88 INPUT/OE1 (in), 89 INPUT/GCLRn (in), 90 INPUT/OE2/GCLK2 (in)
part L pins: 4 TDI/IO (io), 15 TMS/IO (io), 62 TCK/IO (io), 73 TDO/IO (io)
part M pins: 3 VCCIO (3.3 V OR 5.0 V) (power), 18 VCCIO (3.3 V OR 5.0 V) (power), 34 VCCIO (3.3 V OR 5.0 V) (power), 39 VCCINT (5.0 V ONLY) (power), 51 VCCIO (3.3 V OR 5.0 V) (power), 66 VCCIO (3.3 V OR 5.0 V) (power), 82 VCCIO (3.3 V OR 5.0 V) (power), 91 VCCINT (5.0 V ONLY) (power)
part N pins: 11 GND (power), 26 GND (power), 38 GND (power), 43 GND (power), 59 GND (power), 74 GND (power), 86 GND (power), 95 GND (power)
part A text: BANK A
part B text: BANK B
part C text: BANK C
part D text: BANK D
part E text: BANK E
part F text: BANK F
part G text: BANK G
part H text: BANK H
part I text: BANK I
part J text: BANK J

## EPM7160STI100-10
designator U?
MAX 7000S 5V In-System Programmable CPLD, 160 Macrocells, 100-Pin TQFP, Speed Grade 10, Industrial Grade; Published: 17-Jul-2002; LatestRevisionDate: 13-Apr-2006; LatestRevisionNote: IPC-7351 Footprint Added.; DatasheetVersion: ver6.7, Sep-2005; PackageVersion: ver15.1, May-2008; PackageReference: TQFP100; Publisher: Altium Limited; PackageDescription: 100-Pin Plastic Thin Quad Flat Pack (TQFP100) - Wire Bond; Supplier 1: Digi-Key; Supplier Part Number 1: 544-2052-ND; Code_JEDEC: MS-026-AED; ComponentLink1Description: Manufacturer Link; ComponentLink1URL: http://www.altera.com/products/devices/max7k/m7k-index.html; ComponentLink2Description: Datasheet; ComponentLink2URL: http://www.altera.com/literature/ds/m7000.pdf; ComponentLink3Description: Packaging Specification; ComponentLink3URL: http://www.altera.com/literature/ds/dspkg.pdf
footprint TQFP100_N (Thin QFP, 100-Leads, Body 14x14mm, Pitch 0.5mm, IPC Medium Density)
footprint TQFP100_L (Thin QFP, 100-Leads, Body 14x14mm, Pitch 0.5mm, IPC High Density)
footprint TQFP100_M (Thin QFP, 100-Leads, Body 14x14mm, Pitch 0.5mm, IPC Low Density)
3D model EPM7160S-TQFP100 (100-Pin Plastic Thin Quad Flat Pack (TQFP100) - Wire Bond)
signal-integrity model 7k (MAX 7000S)
part A pins: 92 IO (io), 93 IO (io), 94 IO (io), 96 IO (io), 97 IO (io), 98 IO (io), 99 IO (io), 100 IO (io)
part B pins: 1 IO (io), 2 IO (io), 5 IO (io), 6 IO (io), 7 IO (io), 8 IO (io), 9 IO (io)
part C pins: 10 IO (io), 12 IO (io), 13 IO (io), 14 IO (io), 16 IO (io), 17 IO (io), 19 IO (io)
part D pins: 20 IO (io), 21 IO (io), 22 IO (io), 23 IO (io), 24 IO (io), 25 IO (io), 27 IO (io), 28 IO (io)
part E pins: 29 IO (io), 30 IO (io), 31 IO (io), 32 IO (io), 33 IO (io), 35 IO (io), 36 IO (io), 37 IO (io)
part F pins: 40 IO (io), 41 IO (io), 42 IO (io), 44 IO (io), 45 IO (io), 46 IO (io), 47 IO (io), 48 IO (io)
part G pins: 49 IO (io), 50 IO (io), 52 IO (io), 53 IO (io), 54 IO (io), 55 IO (io), 56 IO (io), 57 IO (io)
part H pins: 58 IO (io), 60 IO (io), 61 IO (io), 63 IO (io), 64 IO (io), 65 IO (io), 67 IO (io)
part I pins: 68 IO (io), 69 IO (io), 70 IO (io), 71 IO (io), 72 IO (io), 75 IO (io), 76 IO (io)
part J pins: 77 IO (io), 78 IO (io), 79 IO (io), 80 IO (io), 81 IO (io), 83 IO (io), 84 IO (io), 85 IO (io)
part K pins: 87 INPUT/GCLK1 (in), 88 INPUT/OE1 (in), 89 INPUT/GCLRn (in), 90 INPUT/OE2/GCLK2 (in)
part L pins: 4 TDI/IO (io), 15 TMS/IO (io), 62 TCK/IO (io), 73 TDO/IO (io)
part M pins: 3 VCCIO (3.3 V OR 5.0 V) (power), 18 VCCIO (3.3 V OR 5.0 V) (power), 34 VCCIO (3.3 V OR 5.0 V) (power), 39 VCCINT (5.0 V ONLY) (power), 51 VCCIO (3.3 V OR 5.0 V) (power), 66 VCCIO (3.3 V OR 5.0 V) (power), 82 VCCIO (3.3 V OR 5.0 V) (power), 91 VCCINT (5.0 V ONLY) (power)
part N pins: 11 GND (power), 26 GND (power), 38 GND (power), 43 GND (power), 59 GND (power), 74 GND (power), 86 GND (power), 95 GND (power)
part A text: BANK A
part B text: BANK B
part C text: BANK C
part D text: BANK D
part E text: BANK E
part F text: BANK F
part G text: BANK G
part H text: BANK H
part I text: BANK I
part J text: BANK J

## EPM7160STI100-15
designator U?
MAX 7000S 5V In-System Programmable CPLD, 160 Macrocells, 100-Pin TQFP, Speed Grade 15, Industrial Grade; Published: 17-Sep-2003; LatestRevisionDate: 13-Apr-2006; LatestRevisionNote: IPC-7351 Footprint Added.; DatasheetVersion: ver6.7, Sep-2005; PackageVersion: ver15.1, May-2008; PackageReference: TQFP100; Publisher: Altium Limited; PackageDescription: 100-Pin Plastic Thin Quad Flat Pack (TQFP100) - Wire Bond; Code_JEDEC: MS-026-AED; ComponentLink1Description: Manufacturer Link; ComponentLink1URL: http://www.altera.com/products/devices/max7k/m7k-index.html; ComponentLink2Description: Datasheet; ComponentLink2URL: http://www.altera.com/literature/ds/m7000.pdf; ComponentLink3Description: Packaging Specification; ComponentLink3URL: http://www.altera.com/literature/ds/dspkg.pdf
footprint TQFP100_N (Thin QFP, 100-Leads, Body 14x14mm, Pitch 0.5mm, IPC Medium Density)
footprint TQFP100_L (Thin QFP, 100-Leads, Body 14x14mm, Pitch 0.5mm, IPC High Density)
footprint TQFP100_M (Thin QFP, 100-Leads, Body 14x14mm, Pitch 0.5mm, IPC Low Density)
3D model EPM7160S-TQFP100 (100-Pin Plastic Thin Quad Flat Pack (TQFP100) - Wire Bond)
signal-integrity model 7k (MAX 7000S)
part A pins: 92 IO (io), 93 IO (io), 94 IO (io), 96 IO (io), 97 IO (io), 98 IO (io), 99 IO (io), 100 IO (io)
part B pins: 1 IO (io), 2 IO (io), 5 IO (io), 6 IO (io), 7 IO (io), 8 IO (io), 9 IO (io)
part C pins: 10 IO (io), 12 IO (io), 13 IO (io), 14 IO (io), 16 IO (io), 17 IO (io), 19 IO (io)
part D pins: 20 IO (io), 21 IO (io), 22 IO (io), 23 IO (io), 24 IO (io), 25 IO (io), 27 IO (io), 28 IO (io)
part E pins: 29 IO (io), 30 IO (io), 31 IO (io), 32 IO (io), 33 IO (io), 35 IO (io), 36 IO (io), 37 IO (io)
part F pins: 40 IO (io), 41 IO (io), 42 IO (io), 44 IO (io), 45 IO (io), 46 IO (io), 47 IO (io), 48 IO (io)
part G pins: 49 IO (io), 50 IO (io), 52 IO (io), 53 IO (io), 54 IO (io), 55 IO (io), 56 IO (io), 57 IO (io)
part H pins: 58 IO (io), 60 IO (io), 61 IO (io), 63 IO (io), 64 IO (io), 65 IO (io), 67 IO (io)
part I pins: 68 IO (io), 69 IO (io), 70 IO (io), 71 IO (io), 72 IO (io), 75 IO (io), 76 IO (io)
part J pins: 77 IO (io), 78 IO (io), 79 IO (io), 80 IO (io), 81 IO (io), 83 IO (io), 84 IO (io), 85 IO (io)
part K pins: 87 INPUT/GCLK1 (in), 88 INPUT/OE1 (in), 89 INPUT/GCLRn (in), 90 INPUT/OE2/GCLK2 (in)
part L pins: 4 TDI/IO (io), 15 TMS/IO (io), 62 TCK/IO (io), 73 TDO/IO (io)
part M pins: 3 VCCIO (3.3 V OR 5.0 V) (power), 18 VCCIO (3.3 V OR 5.0 V) (power), 34 VCCIO (3.3 V OR 5.0 V) (power), 39 VCCINT (5.0 V ONLY) (power), 51 VCCIO (3.3 V OR 5.0 V) (power), 66 VCCIO (3.3 V OR 5.0 V) (power), 82 VCCIO (3.3 V OR 5.0 V) (power), 91 VCCINT (5.0 V ONLY) (power)
part N pins: 11 GND (power), 26 GND (power), 38 GND (power), 43 GND (power), 59 GND (power), 74 GND (power), 86 GND (power), 95 GND (power)
part A text: BANK A
part B text: BANK B
part C text: BANK C
part D text: BANK D
part E text: BANK E
part F text: BANK F
part G text: BANK G
part H text: BANK H
part I text: BANK I
part J text: BANK J

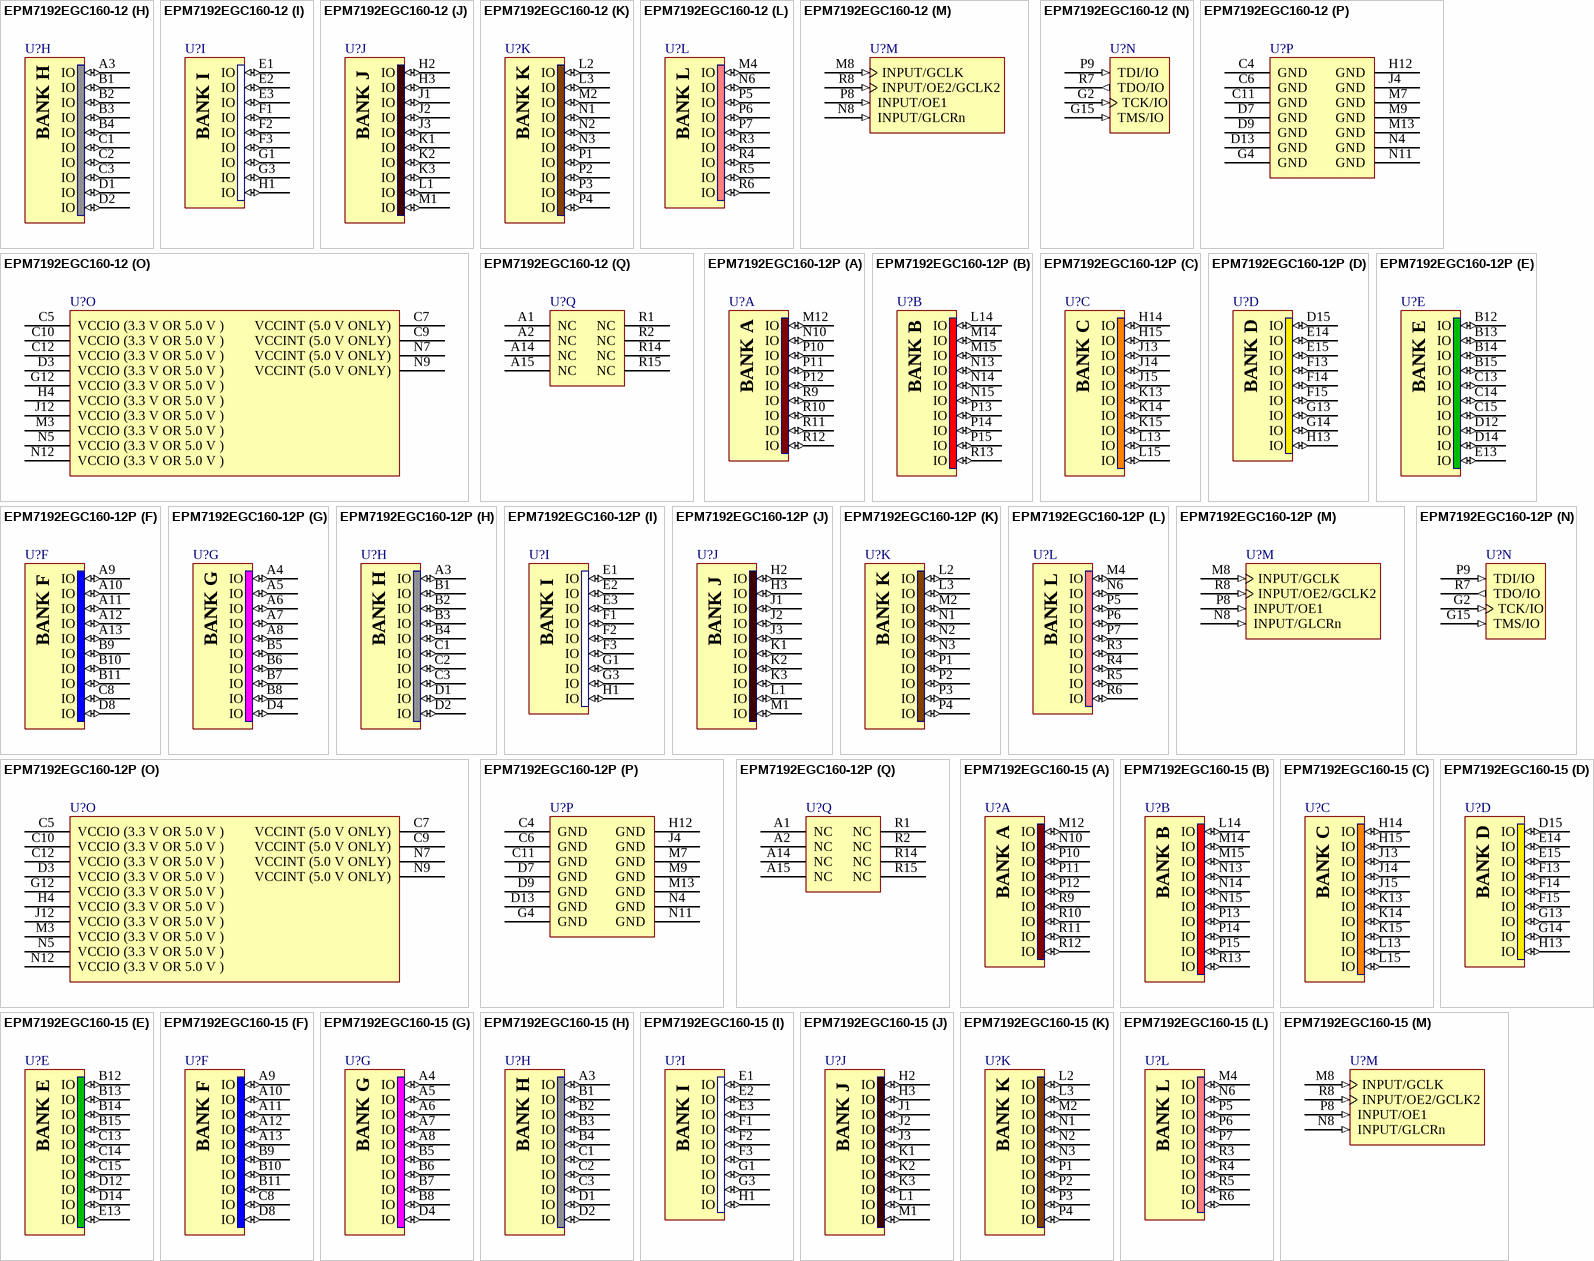
[diagram p77: symbols EPM7192EGC160-12 to EPM7192EGC160-15]

## EPM7192EGC160-12
designator U?
MAX 7000E 5V CPLD, 192 Macrocells, 160-Pin PGA, Speed Grade 12, Commercial Grade; Published: 24-Nov-2000; LatestRevisionDate: 16-Dec-2005; LatestRevisionNote: Banks placed in parts.; DatasheetVersion: ver6.7, Sep-2005; PackageVersion: ver14.3, Jul-2006; PackageReference: PGA160; Publisher: Altium Limited; PackageDescription: 160-Pin Ceramic Pin Grid Array (PGA160); Code_JEDEC: MO-067-AG; ComponentLink1Description: Manufacturer Link; ComponentLink1URL: http://www.altera.com/products/devices/max7k/m7k-index.html; ComponentLink2Description: Datasheet; ComponentLink2URL: http://www.altera.com/literature/ds/m7000.pdf; ComponentLink3Description: Packaging Specification; ComponentLink3URL: http://www.altera.com/literature/ds/dspkg.pdf
footprint PGA160 (PGA, 160-Leads, Body 39.6x39.6mm, Pitch 2.54mm)
3D model EPM7192E-PGA160 (160-Pin Ceramic Pin Grid Array (PGA160))
signal-integrity model 7k (MAX 7000S)
part A pins: M12 IO (io), N10 IO (io), P10 IO (io), P11 IO (io), P12 IO (io), R9 IO (io), R10 IO (io), R11 IO (io), R12 IO (io)
part B pins: L14 IO (io), M14 IO (io), M15 IO (io), N13 IO (io), N14 IO (io), N15 IO (io), P13 IO (io), P14 IO (io), P15 IO (io), R13 IO (io)
part C pins: H14 IO (io), H15 IO (io), J13 IO (io), J14 IO (io), J15 IO (io), K13 IO (io), K14 IO (io), K15 IO (io), L13 IO (io), L15 IO (io)
part D pins: D15 IO (io), E14 IO (io), E15 IO (io), F13 IO (io), F14 IO (io), F15 IO (io), G13 IO (io), G14 IO (io), H13 IO (io)
part E pins: B12 IO (io), B13 IO (io), B14 IO (io), B15 IO (io), C13 IO (io), C14 IO (io), C15 IO (io), D12 IO (io), D14 IO (io), E13 IO (io)
part F pins: A9 IO (io), A10 IO (io), A11 IO (io), A12 IO (io), A13 IO (io), B9 IO (io), B10 IO (io), B11 IO (io), C8 IO (io), D8 IO (io)
part G pins: A4 IO (io), A5 IO (io), A6 IO (io), A7 IO (io), A8 IO (io), B5 IO (io), B6 IO (io), B7 IO (io), B8 IO (io), D4 IO (io)
part H pins: A3 IO (io), B1 IO (io), B2 IO (io), B3 IO (io), B4 IO (io), C1 IO (io), C2 IO (io), C3 IO (io), D1 IO (io), D2 IO (io)
part I pins: E1 IO (io), E2 IO (io), E3 IO (io), F1 IO (io), F2 IO (io), F3 IO (io), G1 IO (io), G3 IO (io), H1 IO (io)
part J pins: H2 IO (io), H3 IO (io), J1 IO (io), J2 IO (io), J3 IO (io), K1 IO (io), K2 IO (io), K3 IO (io), L1 IO (io), M1 IO (io)
part K pins: L2 IO (io), L3 IO (io), M2 IO (io), N1 IO (io), N2 IO (io), N3 IO (io), P1 IO (io), P2 IO (io), P3 IO (io), P4 IO (io)
part L pins: M4 IO (io), N6 IO (io), P5 IO (io), P6 IO (io), P7 IO (io), R3 IO (io), R4 IO (io), R5 IO (io), R6 IO (io)
part M pins: M8 INPUT/GCLK (in), N8 INPUT/GLCRn (in), P8 INPUT/OE1 (in), R8 INPUT/OE2/GCLK2 (in)
part N pins: G2 TCK/IO (in), G15 TMS/IO (in), P9 TDI/IO (in), R7 TDO/IO (out)
part O pins: C5 VCCIO (3.3 V OR 5.0 V ) (power), C7 VCCINT (5.0 V ONLY) (power), C9 VCCINT (5.0 V ONLY) (power), C10 VCCIO (3.3 V OR 5.0 V ) (power), C12 VCCIO (3.3 V OR 5.0 V ) (power), D3 VCCIO (3.3 V OR 5.0 V ) (power), G12 VCCIO (3.3 V OR 5.0 V ) (power), H4 VCCIO (3.3 V OR 5.0 V ) (power), J12 VCCIO (3.3 V OR 5.0 V ) (power), M3 VCCIO (3.3 V OR 5.0 V ) (power), N5 VCCIO (3.3 V OR 5.0 V ) (power), N7 VCCINT (5.0 V ONLY) (power), N9 VCCINT (5.0 V ONLY) (power), N12 VCCIO (3.3 V OR 5.0 V ) (power)
part P pins: C4 GND (power), C6 GND (power), C11 GND (power), D7 GND (power), D9 GND (power), D13 GND (power), G4 GND (power), H12 GND (power), J4 GND (power), M7 GND (power), M9 GND (power), M13 GND (power), N4 GND (power), N11 GND (power)
part Q pins: A1 NC, A2 NC, A14 NC, A15 NC, R1 NC, R2 NC, R14 NC, R15 NC
part A text: BANK A
part B text: BANK B
part C text: BANK C
part D text: BANK D
part E text: BANK E
part F text: BANK F
part G text: BANK G
part H text: BANK H
part I text: BANK I
part J text: BANK J
part K text: BANK K
part L text: BANK L

## EPM7192EGC160-12P
designator U?
MAX 7000E 5V CPLD, 192 Macrocells, 160-Pin PGA, Speed Grade 12P, Commercial Grade; Published: 24-Nov-2000; LatestRevisionDate: 16-Dec-2005; LatestRevisionNote: Banks placed in parts.; DatasheetVersion: ver6.7, Sep-2005; PackageVersion: ver14.3, Jul-2006; PackageReference: PGA160; Publisher: Altium Limited; PackageDescription: 160-Pin Ceramic Pin Grid Array (PGA160); Code_JEDEC: MO-067-AG; ComponentLink1Description: Manufacturer Link; ComponentLink1URL: http://www.altera.com/products/devices/max7k/m7k-index.html; ComponentLink2Description: Datasheet; ComponentLink2URL: http://www.altera.com/literature/ds/m7000.pdf; ComponentLink3Description: Packaging Specification; ComponentLink3URL: http://www.altera.com/literature/ds/dspkg.pdf
footprint PGA160 (PGA, 160-Leads, Body 39.6x39.6mm, Pitch 2.54mm)
3D model EPM7192E-PGA160 (160-Pin Ceramic Pin Grid Array (PGA160))
signal-integrity model 7k (MAX 7000S)
part A pins: M12 IO (io), N10 IO (io), P10 IO (io), P11 IO (io), P12 IO (io), R9 IO (io), R10 IO (io), R11 IO (io), R12 IO (io)
part B pins: L14 IO (io), M14 IO (io), M15 IO (io), N13 IO (io), N14 IO (io), N15 IO (io), P13 IO (io), P14 IO (io), P15 IO (io), R13 IO (io)
part C pins: H14 IO (io), H15 IO (io), J13 IO (io), J14 IO (io), J15 IO (io), K13 IO (io), K14 IO (io), K15 IO (io), L13 IO (io), L15 IO (io)
part D pins: D15 IO (io), E14 IO (io), E15 IO (io), F13 IO (io), F14 IO (io), F15 IO (io), G13 IO (io), G14 IO (io), H13 IO (io)
part E pins: B12 IO (io), B13 IO (io), B14 IO (io), B15 IO (io), C13 IO (io), C14 IO (io), C15 IO (io), D12 IO (io), D14 IO (io), E13 IO (io)
part F pins: A9 IO (io), A10 IO (io), A11 IO (io), A12 IO (io), A13 IO (io), B9 IO (io), B10 IO (io), B11 IO (io), C8 IO (io), D8 IO (io)
part G pins: A4 IO (io), A5 IO (io), A6 IO (io), A7 IO (io), A8 IO (io), B5 IO (io), B6 IO (io), B7 IO (io), B8 IO (io), D4 IO (io)
part H pins: A3 IO (io), B1 IO (io), B2 IO (io), B3 IO (io), B4 IO (io), C1 IO (io), C2 IO (io), C3 IO (io), D1 IO (io), D2 IO (io)
part I pins: E1 IO (io), E2 IO (io), E3 IO (io), F1 IO (io), F2 IO (io), F3 IO (io), G1 IO (io), G3 IO (io), H1 IO (io)
part J pins: H2 IO (io), H3 IO (io), J1 IO (io), J2 IO (io), J3 IO (io), K1 IO (io), K2 IO (io), K3 IO (io), L1 IO (io), M1 IO (io)
part K pins: L2 IO (io), L3 IO (io), M2 IO (io), N1 IO (io), N2 IO (io), N3 IO (io), P1 IO (io), P2 IO (io), P3 IO (io), P4 IO (io)
part L pins: M4 IO (io), N6 IO (io), P5 IO (io), P6 IO (io), P7 IO (io), R3 IO (io), R4 IO (io), R5 IO (io), R6 IO (io)
part M pins: M8 INPUT/GCLK (in), N8 INPUT/GLCRn (in), P8 INPUT/OE1 (in), R8 INPUT/OE2/GCLK2 (in)
part N pins: G2 TCK/IO (in), G15 TMS/IO (in), P9 TDI/IO (in), R7 TDO/IO (out)
part O pins: C5 VCCIO (3.3 V OR 5.0 V ) (power), C7 VCCINT (5.0 V ONLY) (power), C9 VCCINT (5.0 V ONLY) (power), C10 VCCIO (3.3 V OR 5.0 V ) (power), C12 VCCIO (3.3 V OR 5.0 V ) (power), D3 VCCIO (3.3 V OR 5.0 V ) (power), G12 VCCIO (3.3 V OR 5.0 V ) (power), H4 VCCIO (3.3 V OR 5.0 V ) (power), J12 VCCIO (3.3 V OR 5.0 V ) (power), M3 VCCIO (3.3 V OR 5.0 V ) (power), N5 VCCIO (3.3 V OR 5.0 V ) (power), N7 VCCINT (5.0 V ONLY) (power), N9 VCCINT (5.0 V ONLY) (power), N12 VCCIO (3.3 V OR 5.0 V ) (power)
part P pins: C4 GND (power), C6 GND (power), C11 GND (power), D7 GND (power), D9 GND (power), D13 GND (power), G4 GND (power), H12 GND (power), J4 GND (power), M7 GND (power), M9 GND (power), M13 GND (power), N4 GND (power), N11 GND (power)
part Q pins: A1 NC, A2 NC, A14 NC, A15 NC, R1 NC, R2 NC, R14 NC, R15 NC
part A text: BANK A
part B text: BANK B
part C text: BANK C
part D text: BANK D
part E text: BANK E
part F text: BANK F
part G text: BANK G
part H text: BANK H
part I text: BANK I
part J text: BANK J
part K text: BANK K
part L text: BANK L

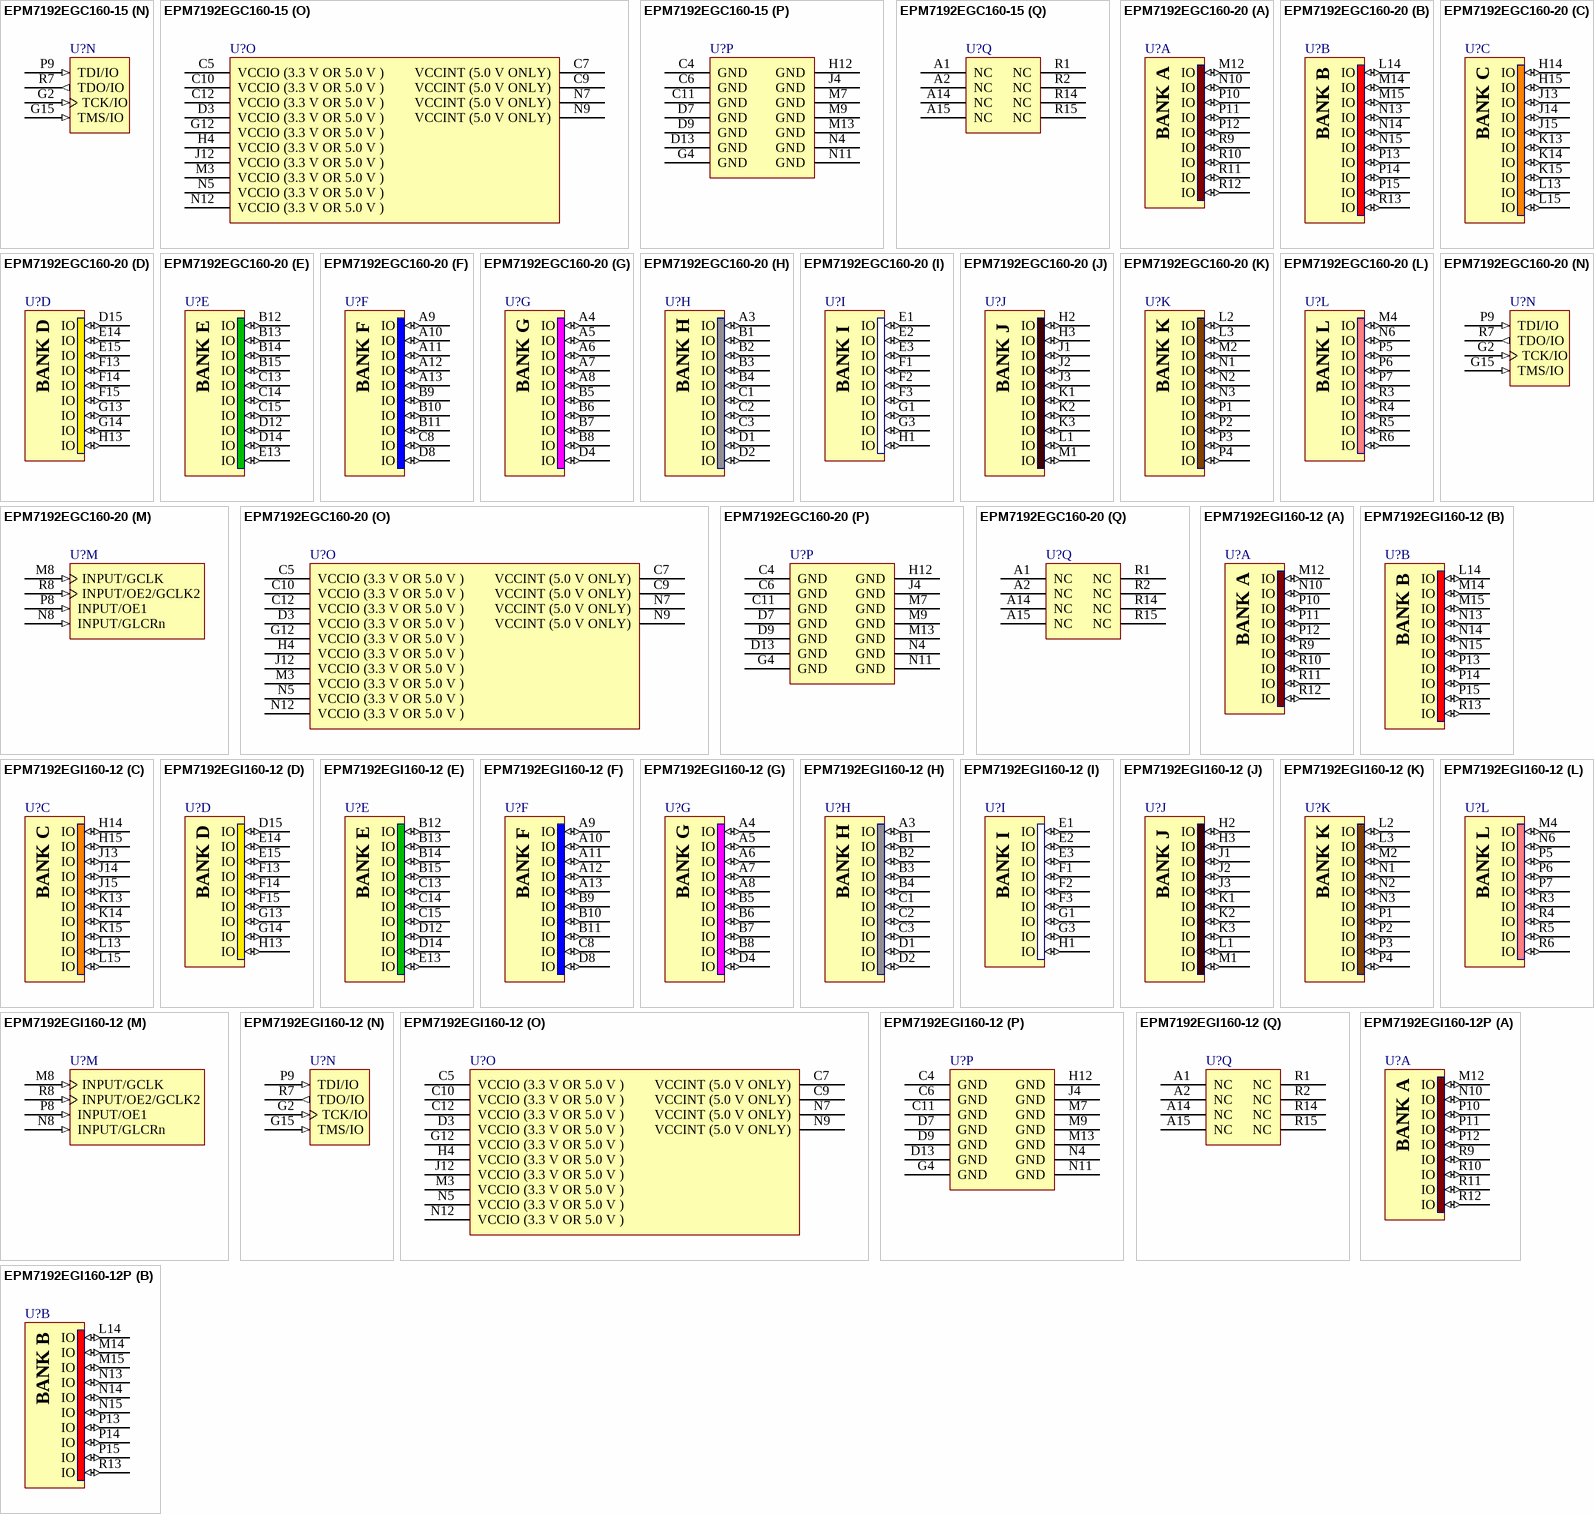
[diagram p78: symbols EPM7192EGC160-15 to EPM7192EGI160-12P]

## EPM7192EGC160-15
designator U?
MAX 7000E 5V CPLD, 192 Macrocells, 160-Pin PGA, Speed Grade 15, Commercial Grade; Published: 24-Nov-2000; LatestRevisionDate: 16-Dec-2005; LatestRevisionNote: Banks placed in parts.; DatasheetVersion: ver6.7, Sep-2005; PackageVersion: ver14.3, Jul-2006; PackageReference: PGA160; Publisher: Altium Limited; PackageDescription: 160-Pin Ceramic Pin Grid Array (PGA160); Code_JEDEC: MO-067-AG; ComponentLink1Description: Manufacturer Link; ComponentLink1URL: http://www.altera.com/products/devices/max7k/m7k-index.html; ComponentLink2Description: Datasheet; ComponentLink2URL: http://www.altera.com/literature/ds/m7000.pdf; ComponentLink3Description: Packaging Specification; ComponentLink3URL: http://www.altera.com/literature/ds/dspkg.pdf
footprint PGA160 (PGA, 160-Leads, Body 39.6x39.6mm, Pitch 2.54mm)
3D model EPM7192E-PGA160 (160-Pin Ceramic Pin Grid Array (PGA160))
signal-integrity model 7k (MAX 7000S)
part A pins: M12 IO (io), N10 IO (io), P10 IO (io), P11 IO (io), P12 IO (io), R9 IO (io), R10 IO (io), R11 IO (io), R12 IO (io)
part B pins: L14 IO (io), M14 IO (io), M15 IO (io), N13 IO (io), N14 IO (io), N15 IO (io), P13 IO (io), P14 IO (io), P15 IO (io), R13 IO (io)
part C pins: H14 IO (io), H15 IO (io), J13 IO (io), J14 IO (io), J15 IO (io), K13 IO (io), K14 IO (io), K15 IO (io), L13 IO (io), L15 IO (io)
part D pins: D15 IO (io), E14 IO (io), E15 IO (io), F13 IO (io), F14 IO (io), F15 IO (io), G13 IO (io), G14 IO (io), H13 IO (io)
part E pins: B12 IO (io), B13 IO (io), B14 IO (io), B15 IO (io), C13 IO (io), C14 IO (io), C15 IO (io), D12 IO (io), D14 IO (io), E13 IO (io)
part F pins: A9 IO (io), A10 IO (io), A11 IO (io), A12 IO (io), A13 IO (io), B9 IO (io), B10 IO (io), B11 IO (io), C8 IO (io), D8 IO (io)
part G pins: A4 IO (io), A5 IO (io), A6 IO (io), A7 IO (io), A8 IO (io), B5 IO (io), B6 IO (io), B7 IO (io), B8 IO (io), D4 IO (io)
part H pins: A3 IO (io), B1 IO (io), B2 IO (io), B3 IO (io), B4 IO (io), C1 IO (io), C2 IO (io), C3 IO (io), D1 IO (io), D2 IO (io)
part I pins: E1 IO (io), E2 IO (io), E3 IO (io), F1 IO (io), F2 IO (io), F3 IO (io), G1 IO (io), G3 IO (io), H1 IO (io)
part J pins: H2 IO (io), H3 IO (io), J1 IO (io), J2 IO (io), J3 IO (io), K1 IO (io), K2 IO (io), K3 IO (io), L1 IO (io), M1 IO (io)
part K pins: L2 IO (io), L3 IO (io), M2 IO (io), N1 IO (io), N2 IO (io), N3 IO (io), P1 IO (io), P2 IO (io), P3 IO (io), P4 IO (io)
part L pins: M4 IO (io), N6 IO (io), P5 IO (io), P6 IO (io), P7 IO (io), R3 IO (io), R4 IO (io), R5 IO (io), R6 IO (io)
part M pins: M8 INPUT/GCLK (in), N8 INPUT/GLCRn (in), P8 INPUT/OE1 (in), R8 INPUT/OE2/GCLK2 (in)
part N pins: G2 TCK/IO (in), G15 TMS/IO (in), P9 TDI/IO (in), R7 TDO/IO (out)
part O pins: C5 VCCIO (3.3 V OR 5.0 V ) (power), C7 VCCINT (5.0 V ONLY) (power), C9 VCCINT (5.0 V ONLY) (power), C10 VCCIO (3.3 V OR 5.0 V ) (power), C12 VCCIO (3.3 V OR 5.0 V ) (power), D3 VCCIO (3.3 V OR 5.0 V ) (power), G12 VCCIO (3.3 V OR 5.0 V ) (power), H4 VCCIO (3.3 V OR 5.0 V ) (power), J12 VCCIO (3.3 V OR 5.0 V ) (power), M3 VCCIO (3.3 V OR 5.0 V ) (power), N5 VCCIO (3.3 V OR 5.0 V ) (power), N7 VCCINT (5.0 V ONLY) (power), N9 VCCINT (5.0 V ONLY) (power), N12 VCCIO (3.3 V OR 5.0 V ) (power)
part P pins: C4 GND (power), C6 GND (power), C11 GND (power), D7 GND (power), D9 GND (power), D13 GND (power), G4 GND (power), H12 GND (power), J4 GND (power), M7 GND (power), M9 GND (power), M13 GND (power), N4 GND (power), N11 GND (power)
part Q pins: A1 NC, A2 NC, A14 NC, A15 NC, R1 NC, R2 NC, R14 NC, R15 NC
part A text: BANK A
part B text: BANK B
part C text: BANK C
part D text: BANK D
part E text: BANK E
part F text: BANK F
part G text: BANK G
part H text: BANK H
part I text: BANK I
part J text: BANK J
part K text: BANK K
part L text: BANK L

## EPM7192EGC160-20
designator U?
MAX 7000E 5V CPLD, 192 Macrocells, 160-Pin PGA, Speed Grade 20, Commercial Grade; Published: 24-Nov-2000; LatestRevisionDate: 16-Dec-2005; LatestRevisionNote: Banks placed in parts.; DatasheetVersion: ver6.7, Sep-2005; PackageVersion: ver14.3, Jul-2006; PackageReference: PGA160; Publisher: Altium Limited; PackageDescription: 160-Pin Ceramic Pin Grid Array (PGA160); Code_JEDEC: MO-067-AG; ComponentLink1Description: Manufacturer Link; ComponentLink1URL: http://www.altera.com/products/devices/max7k/m7k-index.html; ComponentLink2Description: Datasheet; ComponentLink2URL: http://www.altera.com/literature/ds/m7000.pdf; ComponentLink3Description: Packaging Specification; ComponentLink3URL: http://www.altera.com/literature/ds/dspkg.pdf
footprint PGA160 (PGA, 160-Leads, Body 39.6x39.6mm, Pitch 2.54mm)
3D model EPM7192E-PGA160 (160-Pin Ceramic Pin Grid Array (PGA160))
signal-integrity model 7k (MAX 7000S)
part A pins: M12 IO (io), N10 IO (io), P10 IO (io), P11 IO (io), P12 IO (io), R9 IO (io), R10 IO (io), R11 IO (io), R12 IO (io)
part B pins: L14 IO (io), M14 IO (io), M15 IO (io), N13 IO (io), N14 IO (io), N15 IO (io), P13 IO (io), P14 IO (io), P15 IO (io), R13 IO (io)
part C pins: H14 IO (io), H15 IO (io), J13 IO (io), J14 IO (io), J15 IO (io), K13 IO (io), K14 IO (io), K15 IO (io), L13 IO (io), L15 IO (io)
part D pins: D15 IO (io), E14 IO (io), E15 IO (io), F13 IO (io), F14 IO (io), F15 IO (io), G13 IO (io), G14 IO (io), H13 IO (io)
part E pins: B12 IO (io), B13 IO (io), B14 IO (io), B15 IO (io), C13 IO (io), C14 IO (io), C15 IO (io), D12 IO (io), D14 IO (io), E13 IO (io)
part F pins: A9 IO (io), A10 IO (io), A11 IO (io), A12 IO (io), A13 IO (io), B9 IO (io), B10 IO (io), B11 IO (io), C8 IO (io), D8 IO (io)
part G pins: A4 IO (io), A5 IO (io), A6 IO (io), A7 IO (io), A8 IO (io), B5 IO (io), B6 IO (io), B7 IO (io), B8 IO (io), D4 IO (io)
part H pins: A3 IO (io), B1 IO (io), B2 IO (io), B3 IO (io), B4 IO (io), C1 IO (io), C2 IO (io), C3 IO (io), D1 IO (io), D2 IO (io)
part I pins: E1 IO (io), E2 IO (io), E3 IO (io), F1 IO (io), F2 IO (io), F3 IO (io), G1 IO (io), G3 IO (io), H1 IO (io)
part J pins: H2 IO (io), H3 IO (io), J1 IO (io), J2 IO (io), J3 IO (io), K1 IO (io), K2 IO (io), K3 IO (io), L1 IO (io), M1 IO (io)
part K pins: L2 IO (io), L3 IO (io), M2 IO (io), N1 IO (io), N2 IO (io), N3 IO (io), P1 IO (io), P2 IO (io), P3 IO (io), P4 IO (io)
part L pins: M4 IO (io), N6 IO (io), P5 IO (io), P6 IO (io), P7 IO (io), R3 IO (io), R4 IO (io), R5 IO (io), R6 IO (io)
part M pins: M8 INPUT/GCLK (in), N8 INPUT/GLCRn (in), P8 INPUT/OE1 (in), R8 INPUT/OE2/GCLK2 (in)
part N pins: G2 TCK/IO (in), G15 TMS/IO (in), P9 TDI/IO (in), R7 TDO/IO (out)
part O pins: C5 VCCIO (3.3 V OR 5.0 V ) (power), C7 VCCINT (5.0 V ONLY) (power), C9 VCCINT (5.0 V ONLY) (power), C10 VCCIO (3.3 V OR 5.0 V ) (power), C12 VCCIO (3.3 V OR 5.0 V ) (power), D3 VCCIO (3.3 V OR 5.0 V ) (power), G12 VCCIO (3.3 V OR 5.0 V ) (power), H4 VCCIO (3.3 V OR 5.0 V ) (power), J12 VCCIO (3.3 V OR 5.0 V ) (power), M3 VCCIO (3.3 V OR 5.0 V ) (power), N5 VCCIO (3.3 V OR 5.0 V ) (power), N7 VCCINT (5.0 V ONLY) (power), N9 VCCINT (5.0 V ONLY) (power), N12 VCCIO (3.3 V OR 5.0 V ) (power)
part P pins: C4 GND (power), C6 GND (power), C11 GND (power), D7 GND (power), D9 GND (power), D13 GND (power), G4 GND (power), H12 GND (power), J4 GND (power), M7 GND (power), M9 GND (power), M13 GND (power), N4 GND (power), N11 GND (power)
part Q pins: A1 NC, A2 NC, A14 NC, A15 NC, R1 NC, R2 NC, R14 NC, R15 NC
part A text: BANK A
part B text: BANK B
part C text: BANK C
part D text: BANK D
part E text: BANK E
part F text: BANK F
part G text: BANK G
part H text: BANK H
part I text: BANK I
part J text: BANK J
part K text: BANK K
part L text: BANK L

## EPM7192EGI160-12
designator U?
MAX 7000E 5V CPLD, 192 Macrocells, 160-Pin PGA, Speed Grade 12, Industrial Grade; Published: 17-Sep-2003; LatestRevisionDate: 16-Dec-2005; LatestRevisionNote: Banks placed in parts.; DatasheetVersion: ver6.7, Sep-2005; PackageVersion: ver14.3, Jul-2006; PackageReference: PGA160; Publisher: Altium Limited; PackageDescription: 160-Pin Ceramic Pin Grid Array (PGA160); Code_JEDEC: MO-067-AG; ComponentLink1Description: Manufacturer Link; ComponentLink1URL: http://www.altera.com/products/devices/max7k/m7k-index.html; ComponentLink2Description: Datasheet; ComponentLink2URL: http://www.altera.com/literature/ds/m7000.pdf; ComponentLink3Description: Packaging Specification; ComponentLink3URL: http://www.altera.com/literature/ds/dspkg.pdf
footprint PGA160 (PGA, 160-Leads, Body 39.6x39.6mm, Pitch 2.54mm)
3D model EPM7192E-PGA160 (160-Pin Ceramic Pin Grid Array (PGA160))
signal-integrity model 7k (MAX 7000S)
part A pins: M12 IO (io), N10 IO (io), P10 IO (io), P11 IO (io), P12 IO (io), R9 IO (io), R10 IO (io), R11 IO (io), R12 IO (io)
part B pins: L14 IO (io), M14 IO (io), M15 IO (io), N13 IO (io), N14 IO (io), N15 IO (io), P13 IO (io), P14 IO (io), P15 IO (io), R13 IO (io)
part C pins: H14 IO (io), H15 IO (io), J13 IO (io), J14 IO (io), J15 IO (io), K13 IO (io), K14 IO (io), K15 IO (io), L13 IO (io), L15 IO (io)
part D pins: D15 IO (io), E14 IO (io), E15 IO (io), F13 IO (io), F14 IO (io), F15 IO (io), G13 IO (io), G14 IO (io), H13 IO (io)
part E pins: B12 IO (io), B13 IO (io), B14 IO (io), B15 IO (io), C13 IO (io), C14 IO (io), C15 IO (io), D12 IO (io), D14 IO (io), E13 IO (io)
part F pins: A9 IO (io), A10 IO (io), A11 IO (io), A12 IO (io), A13 IO (io), B9 IO (io), B10 IO (io), B11 IO (io), C8 IO (io), D8 IO (io)
part G pins: A4 IO (io), A5 IO (io), A6 IO (io), A7 IO (io), A8 IO (io), B5 IO (io), B6 IO (io), B7 IO (io), B8 IO (io), D4 IO (io)
part H pins: A3 IO (io), B1 IO (io), B2 IO (io), B3 IO (io), B4 IO (io), C1 IO (io), C2 IO (io), C3 IO (io), D1 IO (io), D2 IO (io)
part I pins: E1 IO (io), E2 IO (io), E3 IO (io), F1 IO (io), F2 IO (io), F3 IO (io), G1 IO (io), G3 IO (io), H1 IO (io)
part J pins: H2 IO (io), H3 IO (io), J1 IO (io), J2 IO (io), J3 IO (io), K1 IO (io), K2 IO (io), K3 IO (io), L1 IO (io), M1 IO (io)
part K pins: L2 IO (io), L3 IO (io), M2 IO (io), N1 IO (io), N2 IO (io), N3 IO (io), P1 IO (io), P2 IO (io), P3 IO (io), P4 IO (io)
part L pins: M4 IO (io), N6 IO (io), P5 IO (io), P6 IO (io), P7 IO (io), R3 IO (io), R4 IO (io), R5 IO (io), R6 IO (io)
part M pins: M8 INPUT/GCLK (in), N8 INPUT/GLCRn (in), P8 INPUT/OE1 (in), R8 INPUT/OE2/GCLK2 (in)
part N pins: G2 TCK/IO (in), G15 TMS/IO (in), P9 TDI/IO (in), R7 TDO/IO (out)
part O pins: C5 VCCIO (3.3 V OR 5.0 V ) (power), C7 VCCINT (5.0 V ONLY) (power), C9 VCCINT (5.0 V ONLY) (power), C10 VCCIO (3.3 V OR 5.0 V ) (power), C12 VCCIO (3.3 V OR 5.0 V ) (power), D3 VCCIO (3.3 V OR 5.0 V ) (power), G12 VCCIO (3.3 V OR 5.0 V ) (power), H4 VCCIO (3.3 V OR 5.0 V ) (power), J12 VCCIO (3.3 V OR 5.0 V ) (power), M3 VCCIO (3.3 V OR 5.0 V ) (power), N5 VCCIO (3.3 V OR 5.0 V ) (power), N7 VCCINT (5.0 V ONLY) (power), N9 VCCINT (5.0 V ONLY) (power), N12 VCCIO (3.3 V OR 5.0 V ) (power)
part P pins: C4 GND (power), C6 GND (power), C11 GND (power), D7 GND (power), D9 GND (power), D13 GND (power), G4 GND (power), H12 GND (power), J4 GND (power), M7 GND (power), M9 GND (power), M13 GND (power), N4 GND (power), N11 GND (power)
part Q pins: A1 NC, A2 NC, A14 NC, A15 NC, R1 NC, R2 NC, R14 NC, R15 NC
part A text: BANK A
part B text: BANK B
part C text: BANK C
part D text: BANK D
part E text: BANK E
part F text: BANK F
part G text: BANK G
part H text: BANK H
part I text: BANK I
part J text: BANK J
part K text: BANK K
part L text: BANK L

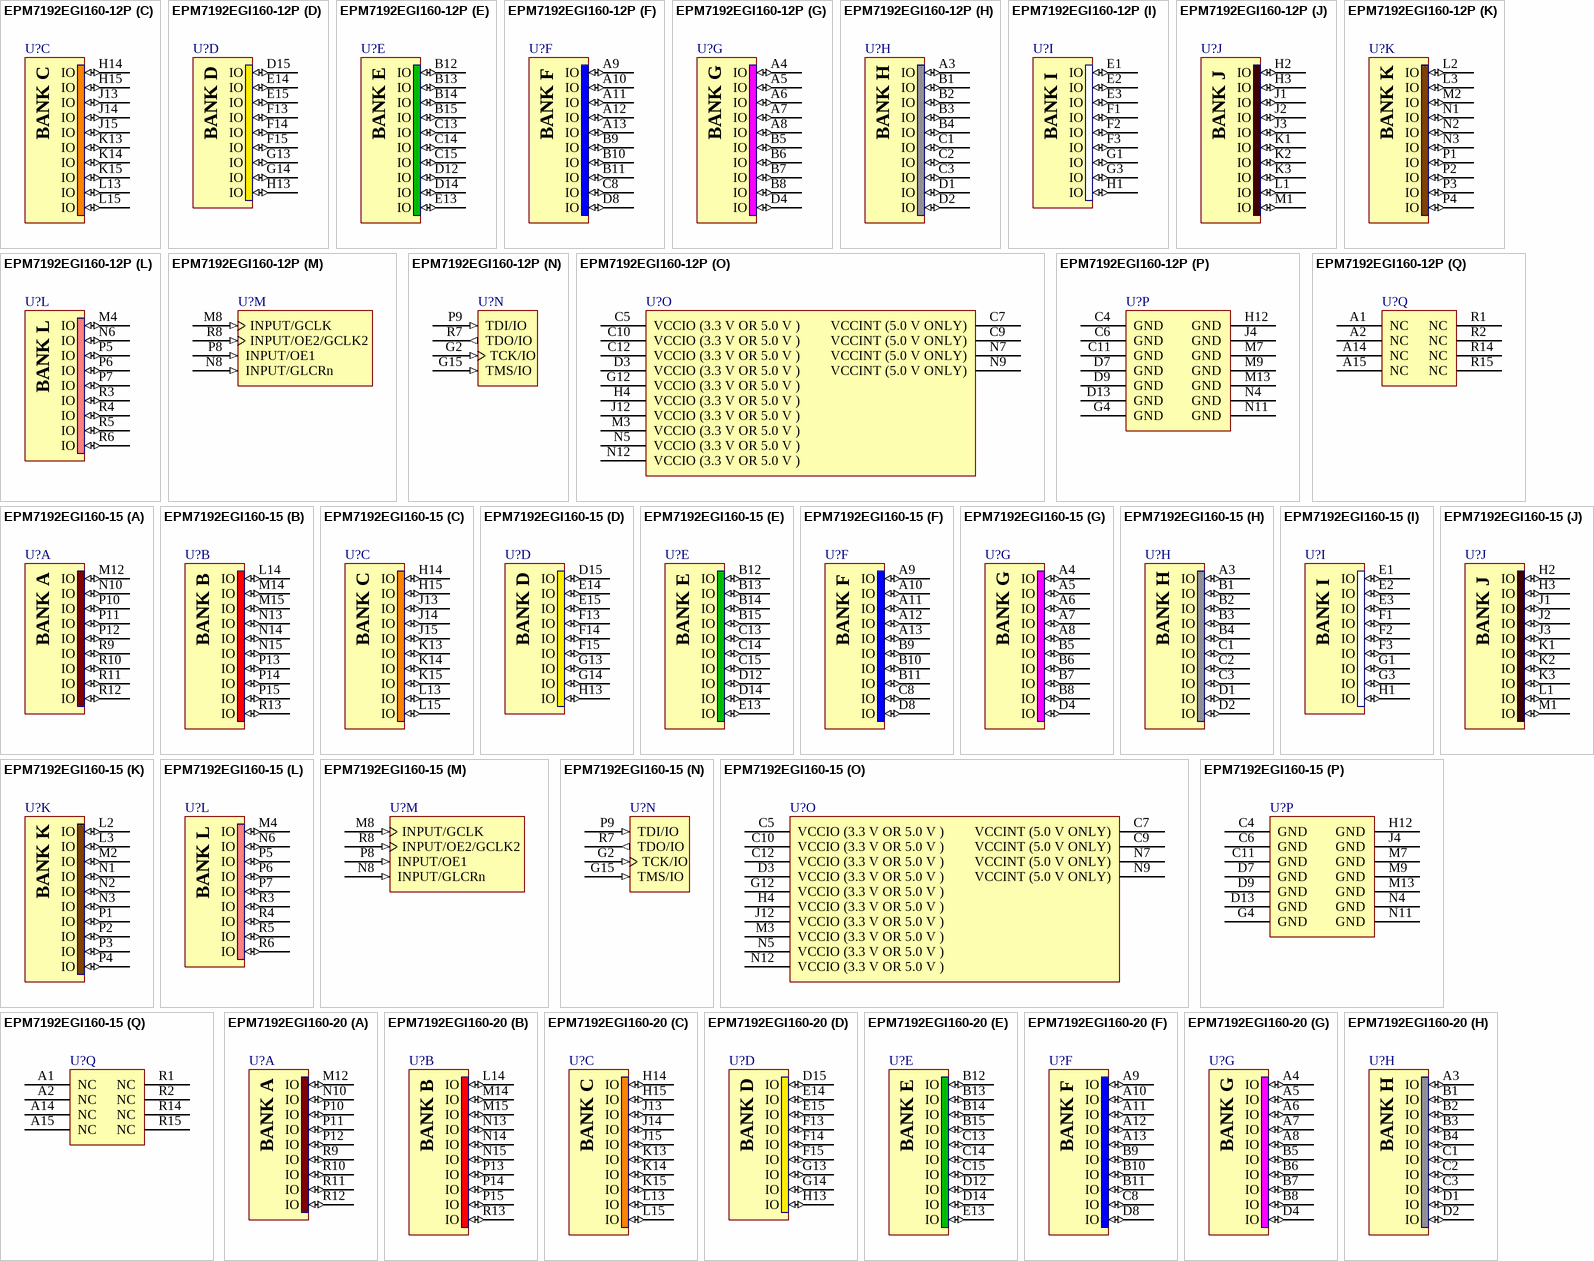
[diagram p79: symbols EPM7192EGI160-12P to EPM7192EGI160-20]